# Altium schematic symbol library Connector.SchLib: 400 symbols (part 2 of 5)
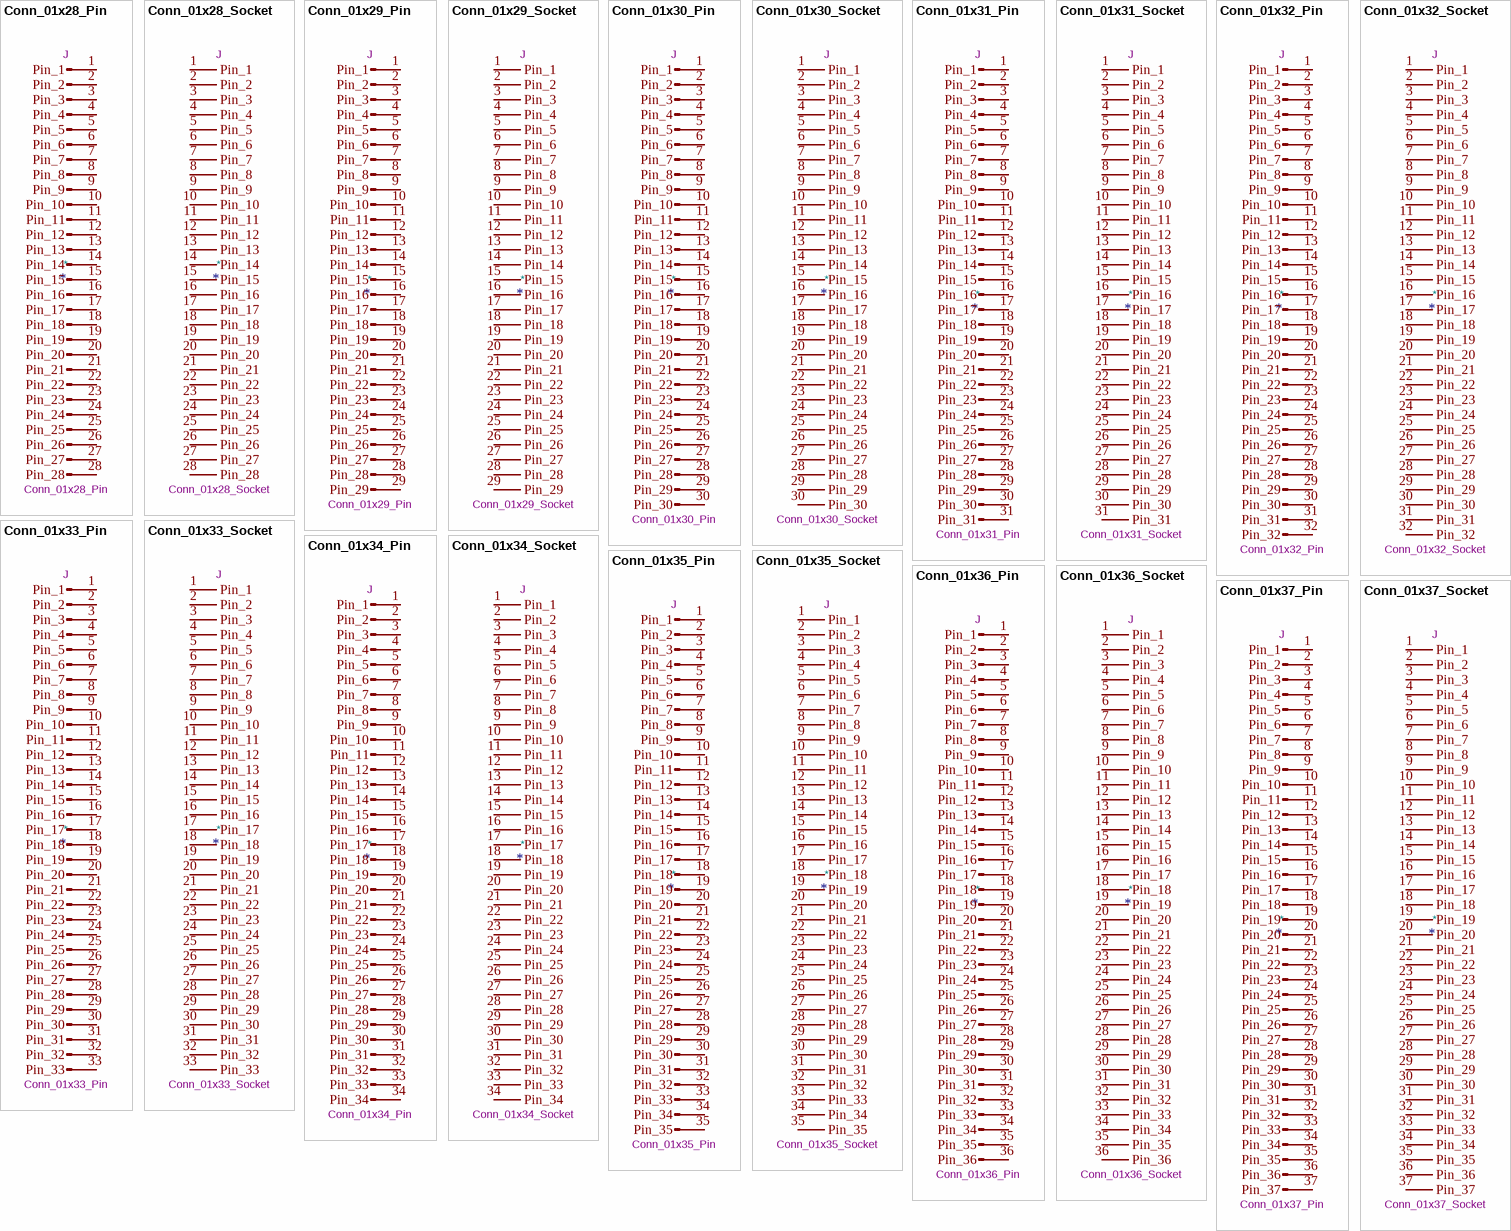
[diagram p18: symbols Conn_01x28_Pin to Conn_01x37_Socket]

## Conn_01x28_Socket
designator *  value Conn_01x28_Socket  Reference: J
Generic connector, single row, 01x28, script generated; ki_fp_filters: Connector*:*_1x??_*; Datasheet: ~; Description_: Generic connector, single row, 01x28, script generated; ki_keywords: connector
pins: 1 Pin_1, 2 Pin_2, 3 Pin_3, 4 Pin_4, 5 Pin_5, 6 Pin_6, 7 Pin_7, 8 Pin_8, 9 Pin_9, 10 Pin_10, 11 Pin_11, 12 Pin_12, 13 Pin_13, 14 Pin_14, 15 Pin_15, 16 Pin_16, 17 Pin_17, 18 Pin_18, 19 Pin_19, 20 Pin_20, 21 Pin_21, 22 Pin_22, 23 Pin_23, 24 Pin_24, 25 Pin_25, 26 Pin_26, 27 Pin_27, 28 Pin_28

## Conn_01x29_Pin
designator *  value Conn_01x29_Pin  Reference: J
Generic connector, single row, 01x29, script generated; ki_fp_filters: Connector*:*_1x??_*; Datasheet: ~; Description_: Generic connector, single row, 01x29, script generated; ki_keywords: connector
pins: 1 Pin_1, 2 Pin_2, 3 Pin_3, 4 Pin_4, 5 Pin_5, 6 Pin_6, 7 Pin_7, 8 Pin_8, 9 Pin_9, 10 Pin_10, 11 Pin_11, 12 Pin_12, 13 Pin_13, 14 Pin_14, 15 Pin_15, 16 Pin_16, 17 Pin_17, 18 Pin_18, 19 Pin_19, 20 Pin_20, 21 Pin_21, 22 Pin_22, 23 Pin_23, 24 Pin_24, 25 Pin_25, 26 Pin_26, 27 Pin_27, 28 Pin_28, 29 Pin_29

## Conn_01x29_Socket
designator *  value Conn_01x29_Socket  Reference: J
Generic connector, single row, 01x29, script generated; ki_fp_filters: Connector*:*_1x??_*; Datasheet: ~; Description_: Generic connector, single row, 01x29, script generated; ki_keywords: connector
pins: 1 Pin_1, 2 Pin_2, 3 Pin_3, 4 Pin_4, 5 Pin_5, 6 Pin_6, 7 Pin_7, 8 Pin_8, 9 Pin_9, 10 Pin_10, 11 Pin_11, 12 Pin_12, 13 Pin_13, 14 Pin_14, 15 Pin_15, 16 Pin_16, 17 Pin_17, 18 Pin_18, 19 Pin_19, 20 Pin_20, 21 Pin_21, 22 Pin_22, 23 Pin_23, 24 Pin_24, 25 Pin_25, 26 Pin_26, 27 Pin_27, 28 Pin_28, 29 Pin_29

## Conn_01x30_Pin
designator *  value Conn_01x30_Pin  Reference: J
Generic connector, single row, 01x30, script generated; ki_fp_filters: Connector*:*_1x??_*; Datasheet: ~; Description_: Generic connector, single row, 01x30, script generated; ki_keywords: connector
pins: 1 Pin_1, 2 Pin_2, 3 Pin_3, 4 Pin_4, 5 Pin_5, 6 Pin_6, 7 Pin_7, 8 Pin_8, 9 Pin_9, 10 Pin_10, 11 Pin_11, 12 Pin_12, 13 Pin_13, 14 Pin_14, 15 Pin_15, 16 Pin_16, 17 Pin_17, 18 Pin_18, 19 Pin_19, 20 Pin_20, 21 Pin_21, 22 Pin_22, 23 Pin_23, 24 Pin_24, 25 Pin_25, 26 Pin_26, 27 Pin_27, 28 Pin_28, 29 Pin_29, 30 Pin_30

## Conn_01x30_Socket
designator *  value Conn_01x30_Socket  Reference: J
Generic connector, single row, 01x30, script generated; ki_fp_filters: Connector*:*_1x??_*; Datasheet: ~; Description_: Generic connector, single row, 01x30, script generated; ki_keywords: connector
pins: 1 Pin_1, 2 Pin_2, 3 Pin_3, 4 Pin_4, 5 Pin_5, 6 Pin_6, 7 Pin_7, 8 Pin_8, 9 Pin_9, 10 Pin_10, 11 Pin_11, 12 Pin_12, 13 Pin_13, 14 Pin_14, 15 Pin_15, 16 Pin_16, 17 Pin_17, 18 Pin_18, 19 Pin_19, 20 Pin_20, 21 Pin_21, 22 Pin_22, 23 Pin_23, 24 Pin_24, 25 Pin_25, 26 Pin_26, 27 Pin_27, 28 Pin_28, 29 Pin_29, 30 Pin_30

## Conn_01x31_Pin
designator *  value Conn_01x31_Pin  Reference: J
Generic connector, single row, 01x31, script generated; ki_fp_filters: Connector*:*_1x??_*; Datasheet: ~; Description_: Generic connector, single row, 01x31, script generated; ki_keywords: connector
pins: 1 Pin_1, 2 Pin_2, 3 Pin_3, 4 Pin_4, 5 Pin_5, 6 Pin_6, 7 Pin_7, 8 Pin_8, 9 Pin_9, 10 Pin_10, 11 Pin_11, 12 Pin_12, 13 Pin_13, 14 Pin_14, 15 Pin_15, 16 Pin_16, 17 Pin_17, 18 Pin_18, 19 Pin_19, 20 Pin_20, 21 Pin_21, 22 Pin_22, 23 Pin_23, 24 Pin_24, 25 Pin_25, 26 Pin_26, 27 Pin_27, 28 Pin_28, 29 Pin_29, 30 Pin_30, 31 Pin_31

## Conn_01x31_Socket
designator *  value Conn_01x31_Socket  Reference: J
Generic connector, single row, 01x31, script generated; ki_fp_filters: Connector*:*_1x??_*; Datasheet: ~; Description_: Generic connector, single row, 01x31, script generated; ki_keywords: connector
pins: 1 Pin_1, 2 Pin_2, 3 Pin_3, 4 Pin_4, 5 Pin_5, 6 Pin_6, 7 Pin_7, 8 Pin_8, 9 Pin_9, 10 Pin_10, 11 Pin_11, 12 Pin_12, 13 Pin_13, 14 Pin_14, 15 Pin_15, 16 Pin_16, 17 Pin_17, 18 Pin_18, 19 Pin_19, 20 Pin_20, 21 Pin_21, 22 Pin_22, 23 Pin_23, 24 Pin_24, 25 Pin_25, 26 Pin_26, 27 Pin_27, 28 Pin_28, 29 Pin_29, 30 Pin_30, 31 Pin_31

## Conn_01x32_Pin
designator *  value Conn_01x32_Pin  Reference: J
Generic connector, single row, 01x32, script generated; ki_fp_filters: Connector*:*_1x??_*; Datasheet: ~; Description_: Generic connector, single row, 01x32, script generated; ki_keywords: connector
pins: 1 Pin_1, 2 Pin_2, 3 Pin_3, 4 Pin_4, 5 Pin_5, 6 Pin_6, 7 Pin_7, 8 Pin_8, 9 Pin_9, 10 Pin_10, 11 Pin_11, 12 Pin_12, 13 Pin_13, 14 Pin_14, 15 Pin_15, 16 Pin_16, 17 Pin_17, 18 Pin_18, 19 Pin_19, 20 Pin_20, 21 Pin_21, 22 Pin_22, 23 Pin_23, 24 Pin_24, 25 Pin_25, 26 Pin_26, 27 Pin_27, 28 Pin_28, 29 Pin_29, 30 Pin_30, 31 Pin_31, 32 Pin_32

## Conn_01x32_Socket
designator *  value Conn_01x32_Socket  Reference: J
Generic connector, single row, 01x32, script generated; ki_fp_filters: Connector*:*_1x??_*; Datasheet: ~; Description_: Generic connector, single row, 01x32, script generated; ki_keywords: connector
pins: 1 Pin_1, 2 Pin_2, 3 Pin_3, 4 Pin_4, 5 Pin_5, 6 Pin_6, 7 Pin_7, 8 Pin_8, 9 Pin_9, 10 Pin_10, 11 Pin_11, 12 Pin_12, 13 Pin_13, 14 Pin_14, 15 Pin_15, 16 Pin_16, 17 Pin_17, 18 Pin_18, 19 Pin_19, 20 Pin_20, 21 Pin_21, 22 Pin_22, 23 Pin_23, 24 Pin_24, 25 Pin_25, 26 Pin_26, 27 Pin_27, 28 Pin_28, 29 Pin_29, 30 Pin_30, 31 Pin_31, 32 Pin_32

## Conn_01x33_Pin
designator *  value Conn_01x33_Pin  Reference: J
Generic connector, single row, 01x33, script generated; ki_fp_filters: Connector*:*_1x??_*; Datasheet: ~; Description_: Generic connector, single row, 01x33, script generated; ki_keywords: connector
pins: 1 Pin_1, 2 Pin_2, 3 Pin_3, 4 Pin_4, 5 Pin_5, 6 Pin_6, 7 Pin_7, 8 Pin_8, 9 Pin_9, 10 Pin_10, 11 Pin_11, 12 Pin_12, 13 Pin_13, 14 Pin_14, 15 Pin_15, 16 Pin_16, 17 Pin_17, 18 Pin_18, 19 Pin_19, 20 Pin_20, 21 Pin_21, 22 Pin_22, 23 Pin_23, 24 Pin_24, 25 Pin_25, 26 Pin_26, 27 Pin_27, 28 Pin_28, 29 Pin_29, 30 Pin_30, 31 Pin_31, 32 Pin_32, 33 Pin_33

## Conn_01x33_Socket
designator *  value Conn_01x33_Socket  Reference: J
Generic connector, single row, 01x33, script generated; ki_fp_filters: Connector*:*_1x??_*; Datasheet: ~; Description_: Generic connector, single row, 01x33, script generated; ki_keywords: connector
pins: 1 Pin_1, 2 Pin_2, 3 Pin_3, 4 Pin_4, 5 Pin_5, 6 Pin_6, 7 Pin_7, 8 Pin_8, 9 Pin_9, 10 Pin_10, 11 Pin_11, 12 Pin_12, 13 Pin_13, 14 Pin_14, 15 Pin_15, 16 Pin_16, 17 Pin_17, 18 Pin_18, 19 Pin_19, 20 Pin_20, 21 Pin_21, 22 Pin_22, 23 Pin_23, 24 Pin_24, 25 Pin_25, 26 Pin_26, 27 Pin_27, 28 Pin_28, 29 Pin_29, 30 Pin_30, 31 Pin_31, 32 Pin_32, 33 Pin_33

## Conn_01x34_Pin
designator *  value Conn_01x34_Pin  Reference: J
Generic connector, single row, 01x34, script generated; ki_fp_filters: Connector*:*_1x??_*; Datasheet: ~; Description_: Generic connector, single row, 01x34, script generated; ki_keywords: connector
pins: 1 Pin_1, 2 Pin_2, 3 Pin_3, 4 Pin_4, 5 Pin_5, 6 Pin_6, 7 Pin_7, 8 Pin_8, 9 Pin_9, 10 Pin_10, 11 Pin_11, 12 Pin_12, 13 Pin_13, 14 Pin_14, 15 Pin_15, 16 Pin_16, 17 Pin_17, 18 Pin_18, 19 Pin_19, 20 Pin_20, 21 Pin_21, 22 Pin_22, 23 Pin_23, 24 Pin_24, 25 Pin_25, 26 Pin_26, 27 Pin_27, 28 Pin_28, 29 Pin_29, 30 Pin_30, 31 Pin_31, 32 Pin_32, 33 Pin_33, 34 Pin_34

## Conn_01x34_Socket
designator *  value Conn_01x34_Socket  Reference: J
Generic connector, single row, 01x34, script generated; ki_fp_filters: Connector*:*_1x??_*; Datasheet: ~; Description_: Generic connector, single row, 01x34, script generated; ki_keywords: connector
pins: 1 Pin_1, 2 Pin_2, 3 Pin_3, 4 Pin_4, 5 Pin_5, 6 Pin_6, 7 Pin_7, 8 Pin_8, 9 Pin_9, 10 Pin_10, 11 Pin_11, 12 Pin_12, 13 Pin_13, 14 Pin_14, 15 Pin_15, 16 Pin_16, 17 Pin_17, 18 Pin_18, 19 Pin_19, 20 Pin_20, 21 Pin_21, 22 Pin_22, 23 Pin_23, 24 Pin_24, 25 Pin_25, 26 Pin_26, 27 Pin_27, 28 Pin_28, 29 Pin_29, 30 Pin_30, 31 Pin_31, 32 Pin_32, 33 Pin_33, 34 Pin_34

## Conn_01x35_Pin
designator *  value Conn_01x35_Pin  Reference: J
Generic connector, single row, 01x35, script generated; ki_fp_filters: Connector*:*_1x??_*; Datasheet: ~; Description_: Generic connector, single row, 01x35, script generated; ki_keywords: connector
pins: 1 Pin_1, 2 Pin_2, 3 Pin_3, 4 Pin_4, 5 Pin_5, 6 Pin_6, 7 Pin_7, 8 Pin_8, 9 Pin_9, 10 Pin_10, 11 Pin_11, 12 Pin_12, 13 Pin_13, 14 Pin_14, 15 Pin_15, 16 Pin_16, 17 Pin_17, 18 Pin_18, 19 Pin_19, 20 Pin_20, 21 Pin_21, 22 Pin_22, 23 Pin_23, 24 Pin_24, 25 Pin_25, 26 Pin_26, 27 Pin_27, 28 Pin_28, 29 Pin_29, 30 Pin_30, 31 Pin_31, 32 Pin_32, 33 Pin_33, 34 Pin_34, 35 Pin_35

## Conn_01x35_Socket
designator *  value Conn_01x35_Socket  Reference: J
Generic connector, single row, 01x35, script generated; ki_fp_filters: Connector*:*_1x??_*; Datasheet: ~; Description_: Generic connector, single row, 01x35, script generated; ki_keywords: connector
pins: 1 Pin_1, 2 Pin_2, 3 Pin_3, 4 Pin_4, 5 Pin_5, 6 Pin_6, 7 Pin_7, 8 Pin_8, 9 Pin_9, 10 Pin_10, 11 Pin_11, 12 Pin_12, 13 Pin_13, 14 Pin_14, 15 Pin_15, 16 Pin_16, 17 Pin_17, 18 Pin_18, 19 Pin_19, 20 Pin_20, 21 Pin_21, 22 Pin_22, 23 Pin_23, 24 Pin_24, 25 Pin_25, 26 Pin_26, 27 Pin_27, 28 Pin_28, 29 Pin_29, 30 Pin_30, 31 Pin_31, 32 Pin_32, 33 Pin_33, 34 Pin_34, 35 Pin_35

## Conn_01x36_Pin
designator *  value Conn_01x36_Pin  Reference: J
Generic connector, single row, 01x36, script generated; ki_fp_filters: Connector*:*_1x??_*; Datasheet: ~; Description_: Generic connector, single row, 01x36, script generated; ki_keywords: connector
pins: 1 Pin_1, 2 Pin_2, 3 Pin_3, 4 Pin_4, 5 Pin_5, 6 Pin_6, 7 Pin_7, 8 Pin_8, 9 Pin_9, 10 Pin_10, 11 Pin_11, 12 Pin_12, 13 Pin_13, 14 Pin_14, 15 Pin_15, 16 Pin_16, 17 Pin_17, 18 Pin_18, 19 Pin_19, 20 Pin_20, 21 Pin_21, 22 Pin_22, 23 Pin_23, 24 Pin_24, 25 Pin_25, 26 Pin_26, 27 Pin_27, 28 Pin_28, 29 Pin_29, 30 Pin_30, 31 Pin_31, 32 Pin_32, 33 Pin_33, 34 Pin_34, 35 Pin_35, 36 Pin_36

## Conn_01x36_Socket
designator *  value Conn_01x36_Socket  Reference: J
Generic connector, single row, 01x36, script generated; ki_fp_filters: Connector*:*_1x??_*; Datasheet: ~; Description_: Generic connector, single row, 01x36, script generated; ki_keywords: connector
pins: 1 Pin_1, 2 Pin_2, 3 Pin_3, 4 Pin_4, 5 Pin_5, 6 Pin_6, 7 Pin_7, 8 Pin_8, 9 Pin_9, 10 Pin_10, 11 Pin_11, 12 Pin_12, 13 Pin_13, 14 Pin_14, 15 Pin_15, 16 Pin_16, 17 Pin_17, 18 Pin_18, 19 Pin_19, 20 Pin_20, 21 Pin_21, 22 Pin_22, 23 Pin_23, 24 Pin_24, 25 Pin_25, 26 Pin_26, 27 Pin_27, 28 Pin_28, 29 Pin_29, 30 Pin_30, 31 Pin_31, 32 Pin_32, 33 Pin_33, 34 Pin_34, 35 Pin_35, 36 Pin_36

## Conn_01x37_Pin
designator *  value Conn_01x37_Pin  Reference: J
Generic connector, single row, 01x37, script generated; ki_fp_filters: Connector*:*_1x??_*; Datasheet: ~; Description_: Generic connector, single row, 01x37, script generated; ki_keywords: connector
pins: 1 Pin_1, 2 Pin_2, 3 Pin_3, 4 Pin_4, 5 Pin_5, 6 Pin_6, 7 Pin_7, 8 Pin_8, 9 Pin_9, 10 Pin_10, 11 Pin_11, 12 Pin_12, 13 Pin_13, 14 Pin_14, 15 Pin_15, 16 Pin_16, 17 Pin_17, 18 Pin_18, 19 Pin_19, 20 Pin_20, 21 Pin_21, 22 Pin_22, 23 Pin_23, 24 Pin_24, 25 Pin_25, 26 Pin_26, 27 Pin_27, 28 Pin_28, 29 Pin_29, 30 Pin_30, 31 Pin_31, 32 Pin_32, 33 Pin_33, 34 Pin_34, 35 Pin_35, 36 Pin_36, 37 Pin_37

## Conn_01x37_Socket
designator *  value Conn_01x37_Socket  Reference: J
Generic connector, single row, 01x37, script generated; ki_fp_filters: Connector*:*_1x??_*; Datasheet: ~; Description_: Generic connector, single row, 01x37, script generated; ki_keywords: connector
pins: 1 Pin_1, 2 Pin_2, 3 Pin_3, 4 Pin_4, 5 Pin_5, 6 Pin_6, 7 Pin_7, 8 Pin_8, 9 Pin_9, 10 Pin_10, 11 Pin_11, 12 Pin_12, 13 Pin_13, 14 Pin_14, 15 Pin_15, 16 Pin_16, 17 Pin_17, 18 Pin_18, 19 Pin_19, 20 Pin_20, 21 Pin_21, 22 Pin_22, 23 Pin_23, 24 Pin_24, 25 Pin_25, 26 Pin_26, 27 Pin_27, 28 Pin_28, 29 Pin_29, 30 Pin_30, 31 Pin_31, 32 Pin_32, 33 Pin_33, 34 Pin_34, 35 Pin_35, 36 Pin_36, 37 Pin_37

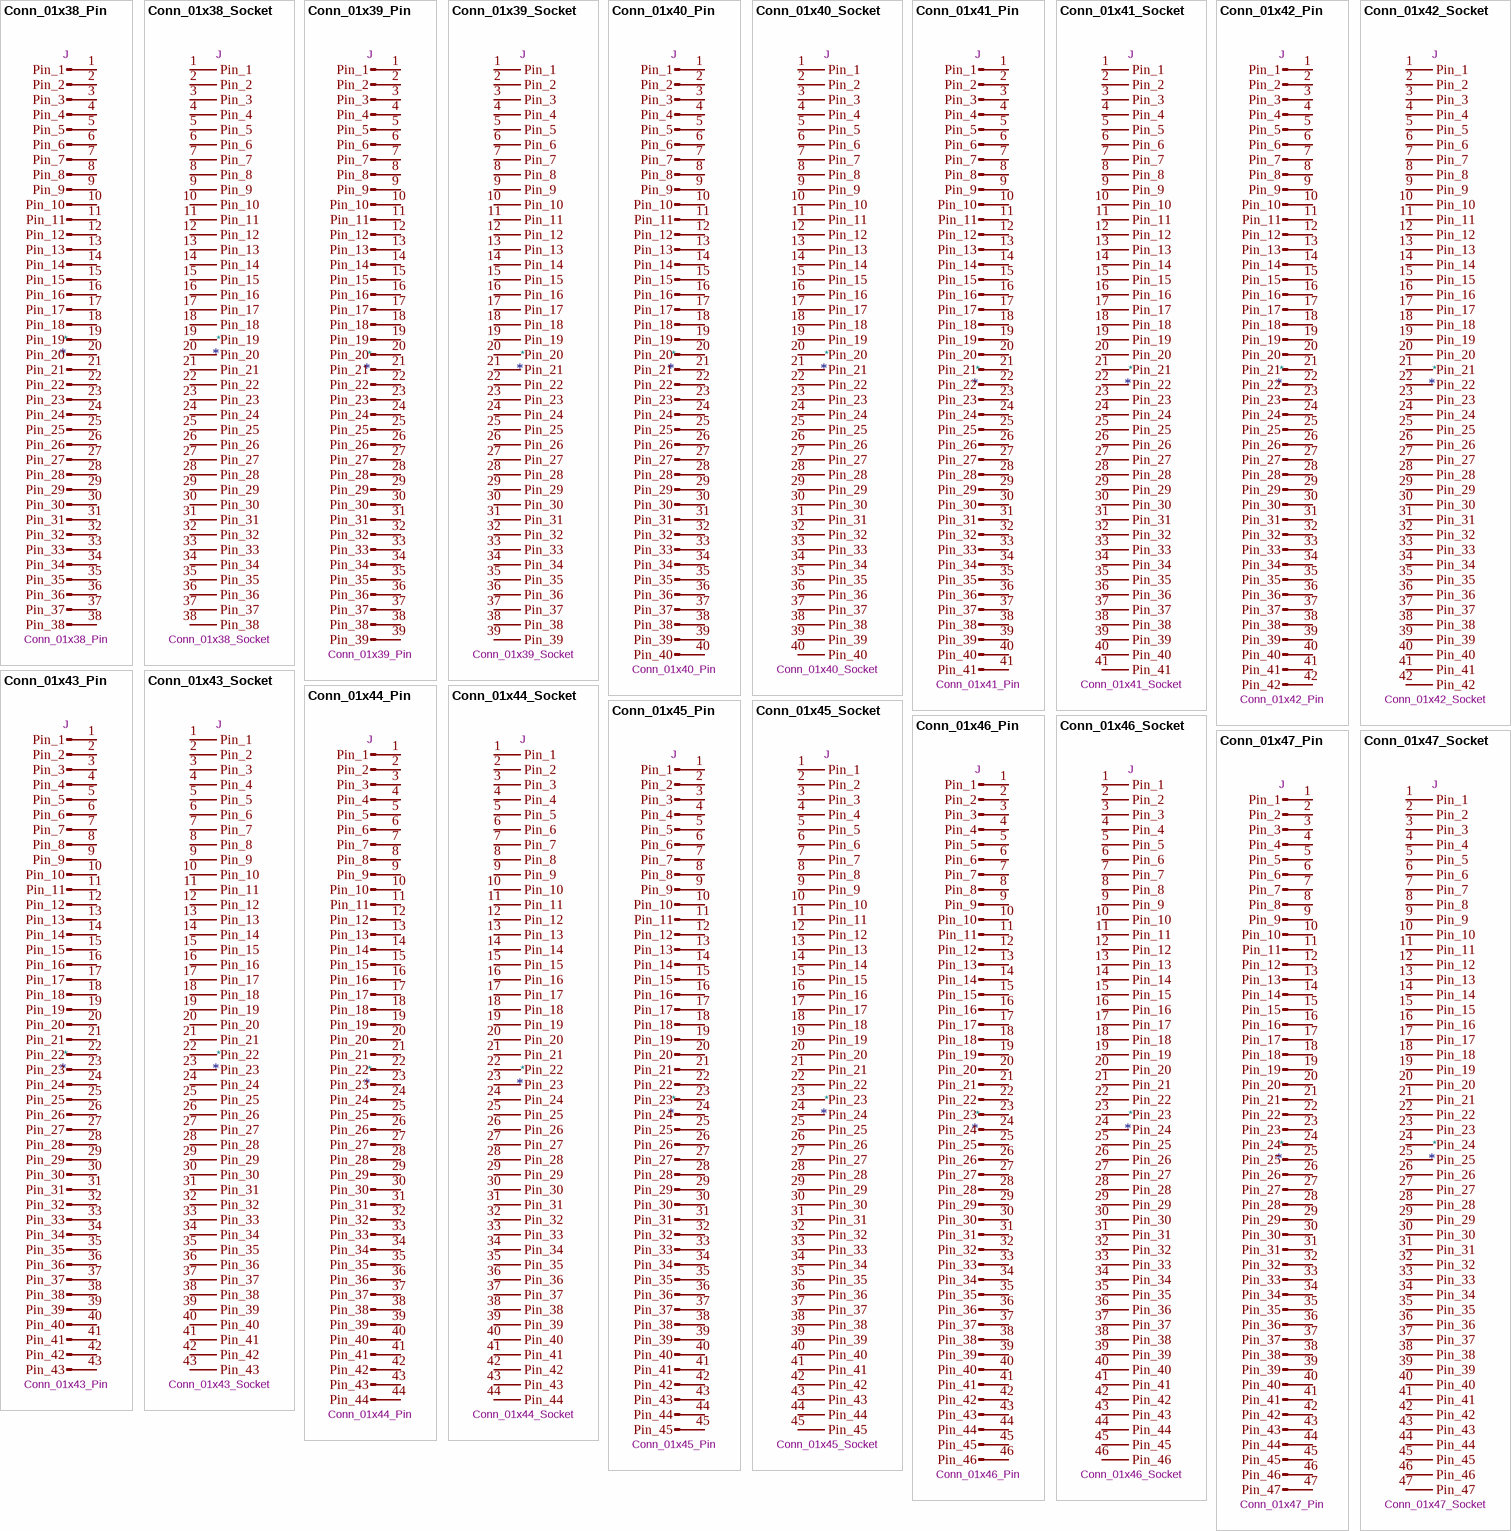
[diagram p5: symbols Conn_01x38_Pin to Conn_01x47_Socket]

## Conn_01x38_Pin
designator *  value Conn_01x38_Pin  Reference: J
Generic connector, single row, 01x38, script generated; ki_fp_filters: Connector*:*_1x??_*; Datasheet: ~; Description_: Generic connector, single row, 01x38, script generated; ki_keywords: connector
pins: 1 Pin_1, 2 Pin_2, 3 Pin_3, 4 Pin_4, 5 Pin_5, 6 Pin_6, 7 Pin_7, 8 Pin_8, 9 Pin_9, 10 Pin_10, 11 Pin_11, 12 Pin_12, 13 Pin_13, 14 Pin_14, 15 Pin_15, 16 Pin_16, 17 Pin_17, 18 Pin_18, 19 Pin_19, 20 Pin_20, 21 Pin_21, 22 Pin_22, 23 Pin_23, 24 Pin_24, 25 Pin_25, 26 Pin_26, 27 Pin_27, 28 Pin_28, 29 Pin_29, 30 Pin_30, 31 Pin_31, 32 Pin_32, 33 Pin_33, 34 Pin_34, 35 Pin_35, 36 Pin_36, 37 Pin_37, 38 Pin_38

## Conn_01x38_Socket
designator *  value Conn_01x38_Socket  Reference: J
Generic connector, single row, 01x38, script generated; ki_fp_filters: Connector*:*_1x??_*; Datasheet: ~; Description_: Generic connector, single row, 01x38, script generated; ki_keywords: connector
pins: 1 Pin_1, 2 Pin_2, 3 Pin_3, 4 Pin_4, 5 Pin_5, 6 Pin_6, 7 Pin_7, 8 Pin_8, 9 Pin_9, 10 Pin_10, 11 Pin_11, 12 Pin_12, 13 Pin_13, 14 Pin_14, 15 Pin_15, 16 Pin_16, 17 Pin_17, 18 Pin_18, 19 Pin_19, 20 Pin_20, 21 Pin_21, 22 Pin_22, 23 Pin_23, 24 Pin_24, 25 Pin_25, 26 Pin_26, 27 Pin_27, 28 Pin_28, 29 Pin_29, 30 Pin_30, 31 Pin_31, 32 Pin_32, 33 Pin_33, 34 Pin_34, 35 Pin_35, 36 Pin_36, 37 Pin_37, 38 Pin_38

## Conn_01x39_Pin
designator *  value Conn_01x39_Pin  Reference: J
Generic connector, single row, 01x39, script generated; ki_fp_filters: Connector*:*_1x??_*; Datasheet: ~; Description_: Generic connector, single row, 01x39, script generated; ki_keywords: connector
pins: 1 Pin_1, 2 Pin_2, 3 Pin_3, 4 Pin_4, 5 Pin_5, 6 Pin_6, 7 Pin_7, 8 Pin_8, 9 Pin_9, 10 Pin_10, 11 Pin_11, 12 Pin_12, 13 Pin_13, 14 Pin_14, 15 Pin_15, 16 Pin_16, 17 Pin_17, 18 Pin_18, 19 Pin_19, 20 Pin_20, 21 Pin_21, 22 Pin_22, 23 Pin_23, 24 Pin_24, 25 Pin_25, 26 Pin_26, 27 Pin_27, 28 Pin_28, 29 Pin_29, 30 Pin_30, 31 Pin_31, 32 Pin_32, 33 Pin_33, 34 Pin_34, 35 Pin_35, 36 Pin_36, 37 Pin_37, 38 Pin_38, 39 Pin_39

## Conn_01x39_Socket
designator *  value Conn_01x39_Socket  Reference: J
Generic connector, single row, 01x39, script generated; ki_fp_filters: Connector*:*_1x??_*; Datasheet: ~; Description_: Generic connector, single row, 01x39, script generated; ki_keywords: connector
pins: 1 Pin_1, 2 Pin_2, 3 Pin_3, 4 Pin_4, 5 Pin_5, 6 Pin_6, 7 Pin_7, 8 Pin_8, 9 Pin_9, 10 Pin_10, 11 Pin_11, 12 Pin_12, 13 Pin_13, 14 Pin_14, 15 Pin_15, 16 Pin_16, 17 Pin_17, 18 Pin_18, 19 Pin_19, 20 Pin_20, 21 Pin_21, 22 Pin_22, 23 Pin_23, 24 Pin_24, 25 Pin_25, 26 Pin_26, 27 Pin_27, 28 Pin_28, 29 Pin_29, 30 Pin_30, 31 Pin_31, 32 Pin_32, 33 Pin_33, 34 Pin_34, 35 Pin_35, 36 Pin_36, 37 Pin_37, 38 Pin_38, 39 Pin_39

## Conn_01x40_Pin
designator *  value Conn_01x40_Pin  Reference: J
Generic connector, single row, 01x40, script generated; ki_fp_filters: Connector*:*_1x??_*; Datasheet: ~; Description_: Generic connector, single row, 01x40, script generated; ki_keywords: connector
pins: 1 Pin_1, 2 Pin_2, 3 Pin_3, 4 Pin_4, 5 Pin_5, 6 Pin_6, 7 Pin_7, 8 Pin_8, 9 Pin_9, 10 Pin_10, 11 Pin_11, 12 Pin_12, 13 Pin_13, 14 Pin_14, 15 Pin_15, 16 Pin_16, 17 Pin_17, 18 Pin_18, 19 Pin_19, 20 Pin_20, 21 Pin_21, 22 Pin_22, 23 Pin_23, 24 Pin_24, 25 Pin_25, 26 Pin_26, 27 Pin_27, 28 Pin_28, 29 Pin_29, 30 Pin_30, 31 Pin_31, 32 Pin_32, 33 Pin_33, 34 Pin_34, 35 Pin_35, 36 Pin_36, 37 Pin_37, 38 Pin_38, 39 Pin_39, 40 Pin_40

## Conn_01x40_Socket
designator *  value Conn_01x40_Socket  Reference: J
Generic connector, single row, 01x40, script generated; ki_fp_filters: Connector*:*_1x??_*; Datasheet: ~; Description_: Generic connector, single row, 01x40, script generated; ki_keywords: connector
pins: 1 Pin_1, 2 Pin_2, 3 Pin_3, 4 Pin_4, 5 Pin_5, 6 Pin_6, 7 Pin_7, 8 Pin_8, 9 Pin_9, 10 Pin_10, 11 Pin_11, 12 Pin_12, 13 Pin_13, 14 Pin_14, 15 Pin_15, 16 Pin_16, 17 Pin_17, 18 Pin_18, 19 Pin_19, 20 Pin_20, 21 Pin_21, 22 Pin_22, 23 Pin_23, 24 Pin_24, 25 Pin_25, 26 Pin_26, 27 Pin_27, 28 Pin_28, 29 Pin_29, 30 Pin_30, 31 Pin_31, 32 Pin_32, 33 Pin_33, 34 Pin_34, 35 Pin_35, 36 Pin_36, 37 Pin_37, 38 Pin_38, 39 Pin_39, 40 Pin_40

## Conn_01x41_Pin
designator *  value Conn_01x41_Pin  Reference: J
"Generic connector, single row, 01x41, script generated"; ki_fp_filters: Connector*:*_1x??_*; Datasheet: ~; Description_: "Generic connector, single row, 01x41, script generated"; ki_keywords: connector
pins: 1 Pin_1, 2 Pin_2, 3 Pin_3, 4 Pin_4, 5 Pin_5, 6 Pin_6, 7 Pin_7, 8 Pin_8, 9 Pin_9, 10 Pin_10, 11 Pin_11, 12 Pin_12, 13 Pin_13, 14 Pin_14, 15 Pin_15, 16 Pin_16, 17 Pin_17, 18 Pin_18, 19 Pin_19, 20 Pin_20, 21 Pin_21, 22 Pin_22, 23 Pin_23, 24 Pin_24, 25 Pin_25, 26 Pin_26, 27 Pin_27, 28 Pin_28, 29 Pin_29, 30 Pin_30, 31 Pin_31, 32 Pin_32, 33 Pin_33, 34 Pin_34, 35 Pin_35, 36 Pin_36, 37 Pin_37, 38 Pin_38, 39 Pin_39, 40 Pin_40, 41 Pin_41

## Conn_01x41_Socket
designator *  value Conn_01x41_Socket  Reference: J
"Generic connector, single row, 01x41, script generated"; ki_fp_filters: Connector*:*_1x??_*; Datasheet: ~; Description_: "Generic connector, single row, 01x41, script generated"; ki_keywords: connector
pins: 1 Pin_1, 2 Pin_2, 3 Pin_3, 4 Pin_4, 5 Pin_5, 6 Pin_6, 7 Pin_7, 8 Pin_8, 9 Pin_9, 10 Pin_10, 11 Pin_11, 12 Pin_12, 13 Pin_13, 14 Pin_14, 15 Pin_15, 16 Pin_16, 17 Pin_17, 18 Pin_18, 19 Pin_19, 20 Pin_20, 21 Pin_21, 22 Pin_22, 23 Pin_23, 24 Pin_24, 25 Pin_25, 26 Pin_26, 27 Pin_27, 28 Pin_28, 29 Pin_29, 30 Pin_30, 31 Pin_31, 32 Pin_32, 33 Pin_33, 34 Pin_34, 35 Pin_35, 36 Pin_36, 37 Pin_37, 38 Pin_38, 39 Pin_39, 40 Pin_40, 41 Pin_41

## Conn_01x42_Pin
designator *  value Conn_01x42_Pin  Reference: J
"Generic connector, single row, 01x42, script generated"; ki_fp_filters: Connector*:*_1x??_*; Datasheet: ~; Description_: "Generic connector, single row, 01x42, script generated"; ki_keywords: connector
pins: 1 Pin_1, 2 Pin_2, 3 Pin_3, 4 Pin_4, 5 Pin_5, 6 Pin_6, 7 Pin_7, 8 Pin_8, 9 Pin_9, 10 Pin_10, 11 Pin_11, 12 Pin_12, 13 Pin_13, 14 Pin_14, 15 Pin_15, 16 Pin_16, 17 Pin_17, 18 Pin_18, 19 Pin_19, 20 Pin_20, 21 Pin_21, 22 Pin_22, 23 Pin_23, 24 Pin_24, 25 Pin_25, 26 Pin_26, 27 Pin_27, 28 Pin_28, 29 Pin_29, 30 Pin_30, 31 Pin_31, 32 Pin_32, 33 Pin_33, 34 Pin_34, 35 Pin_35, 36 Pin_36, 37 Pin_37, 38 Pin_38, 39 Pin_39, 40 Pin_40, 41 Pin_41, 42 Pin_42

## Conn_01x42_Socket
designator *  value Conn_01x42_Socket  Reference: J
"Generic connector, single row, 01x42, script generated"; ki_fp_filters: Connector*:*_1x??_*; Datasheet: ~; Description_: "Generic connector, single row, 01x42, script generated"; ki_keywords: connector
pins: 1 Pin_1, 2 Pin_2, 3 Pin_3, 4 Pin_4, 5 Pin_5, 6 Pin_6, 7 Pin_7, 8 Pin_8, 9 Pin_9, 10 Pin_10, 11 Pin_11, 12 Pin_12, 13 Pin_13, 14 Pin_14, 15 Pin_15, 16 Pin_16, 17 Pin_17, 18 Pin_18, 19 Pin_19, 20 Pin_20, 21 Pin_21, 22 Pin_22, 23 Pin_23, 24 Pin_24, 25 Pin_25, 26 Pin_26, 27 Pin_27, 28 Pin_28, 29 Pin_29, 30 Pin_30, 31 Pin_31, 32 Pin_32, 33 Pin_33, 34 Pin_34, 35 Pin_35, 36 Pin_36, 37 Pin_37, 38 Pin_38, 39 Pin_39, 40 Pin_40, 41 Pin_41, 42 Pin_42

## Conn_01x43_Pin
designator *  value Conn_01x43_Pin  Reference: J
"Generic connector, single row, 01x43, script generated"; ki_fp_filters: Connector*:*_1x??_*; Datasheet: ~; Description_: "Generic connector, single row, 01x43, script generated"; ki_keywords: connector
pins: 1 Pin_1, 2 Pin_2, 3 Pin_3, 4 Pin_4, 5 Pin_5, 6 Pin_6, 7 Pin_7, 8 Pin_8, 9 Pin_9, 10 Pin_10, 11 Pin_11, 12 Pin_12, 13 Pin_13, 14 Pin_14, 15 Pin_15, 16 Pin_16, 17 Pin_17, 18 Pin_18, 19 Pin_19, 20 Pin_20, 21 Pin_21, 22 Pin_22, 23 Pin_23, 24 Pin_24, 25 Pin_25, 26 Pin_26, 27 Pin_27, 28 Pin_28, 29 Pin_29, 30 Pin_30, 31 Pin_31, 32 Pin_32, 33 Pin_33, 34 Pin_34, 35 Pin_35, 36 Pin_36, 37 Pin_37, 38 Pin_38, 39 Pin_39, 40 Pin_40, 41 Pin_41, 42 Pin_42, 43 Pin_43

## Conn_01x43_Socket
designator *  value Conn_01x43_Socket  Reference: J
"Generic connector, single row, 01x43, script generated"; ki_fp_filters: Connector*:*_1x??_*; Datasheet: ~; Description_: "Generic connector, single row, 01x43, script generated"; ki_keywords: connector
pins: 1 Pin_1, 2 Pin_2, 3 Pin_3, 4 Pin_4, 5 Pin_5, 6 Pin_6, 7 Pin_7, 8 Pin_8, 9 Pin_9, 10 Pin_10, 11 Pin_11, 12 Pin_12, 13 Pin_13, 14 Pin_14, 15 Pin_15, 16 Pin_16, 17 Pin_17, 18 Pin_18, 19 Pin_19, 20 Pin_20, 21 Pin_21, 22 Pin_22, 23 Pin_23, 24 Pin_24, 25 Pin_25, 26 Pin_26, 27 Pin_27, 28 Pin_28, 29 Pin_29, 30 Pin_30, 31 Pin_31, 32 Pin_32, 33 Pin_33, 34 Pin_34, 35 Pin_35, 36 Pin_36, 37 Pin_37, 38 Pin_38, 39 Pin_39, 40 Pin_40, 41 Pin_41, 42 Pin_42, 43 Pin_43

## Conn_01x44_Pin
designator *  value Conn_01x44_Pin  Reference: J
"Generic connector, single row, 01x44, script generated"; ki_fp_filters: Connector*:*_1x??_*; Datasheet: ~; Description_: "Generic connector, single row, 01x44, script generated"; ki_keywords: connector
pins: 1 Pin_1, 2 Pin_2, 3 Pin_3, 4 Pin_4, 5 Pin_5, 6 Pin_6, 7 Pin_7, 8 Pin_8, 9 Pin_9, 10 Pin_10, 11 Pin_11, 12 Pin_12, 13 Pin_13, 14 Pin_14, 15 Pin_15, 16 Pin_16, 17 Pin_17, 18 Pin_18, 19 Pin_19, 20 Pin_20, 21 Pin_21, 22 Pin_22, 23 Pin_23, 24 Pin_24, 25 Pin_25, 26 Pin_26, 27 Pin_27, 28 Pin_28, 29 Pin_29, 30 Pin_30, 31 Pin_31, 32 Pin_32, 33 Pin_33, 34 Pin_34, 35 Pin_35, 36 Pin_36, 37 Pin_37, 38 Pin_38, 39 Pin_39, 40 Pin_40, 41 Pin_41, 42 Pin_42, 43 Pin_43, 44 Pin_44

## Conn_01x44_Socket
designator *  value Conn_01x44_Socket  Reference: J
"Generic connector, single row, 01x44, script generated"; ki_fp_filters: Connector*:*_1x??_*; Datasheet: ~; Description_: "Generic connector, single row, 01x44, script generated"; ki_keywords: connector
pins: 1 Pin_1, 2 Pin_2, 3 Pin_3, 4 Pin_4, 5 Pin_5, 6 Pin_6, 7 Pin_7, 8 Pin_8, 9 Pin_9, 10 Pin_10, 11 Pin_11, 12 Pin_12, 13 Pin_13, 14 Pin_14, 15 Pin_15, 16 Pin_16, 17 Pin_17, 18 Pin_18, 19 Pin_19, 20 Pin_20, 21 Pin_21, 22 Pin_22, 23 Pin_23, 24 Pin_24, 25 Pin_25, 26 Pin_26, 27 Pin_27, 28 Pin_28, 29 Pin_29, 30 Pin_30, 31 Pin_31, 32 Pin_32, 33 Pin_33, 34 Pin_34, 35 Pin_35, 36 Pin_36, 37 Pin_37, 38 Pin_38, 39 Pin_39, 40 Pin_40, 41 Pin_41, 42 Pin_42, 43 Pin_43, 44 Pin_44

## Conn_01x45_Pin
designator *  value Conn_01x45_Pin  Reference: J
"Generic connector, single row, 01x45, script generated"; ki_fp_filters: Connector*:*_1x??_*; Datasheet: ~; Description_: "Generic connector, single row, 01x45, script generated"; ki_keywords: connector
pins: 1 Pin_1, 2 Pin_2, 3 Pin_3, 4 Pin_4, 5 Pin_5, 6 Pin_6, 7 Pin_7, 8 Pin_8, 9 Pin_9, 10 Pin_10, 11 Pin_11, 12 Pin_12, 13 Pin_13, 14 Pin_14, 15 Pin_15, 16 Pin_16, 17 Pin_17, 18 Pin_18, 19 Pin_19, 20 Pin_20, 21 Pin_21, 22 Pin_22, 23 Pin_23, 24 Pin_24, 25 Pin_25, 26 Pin_26, 27 Pin_27, 28 Pin_28, 29 Pin_29, 30 Pin_30, 31 Pin_31, 32 Pin_32, 33 Pin_33, 34 Pin_34, 35 Pin_35, 36 Pin_36, 37 Pin_37, 38 Pin_38, 39 Pin_39, 40 Pin_40, 41 Pin_41, 42 Pin_42, 43 Pin_43, 44 Pin_44, 45 Pin_45

## Conn_01x45_Socket
designator *  value Conn_01x45_Socket  Reference: J
"Generic connector, single row, 01x45, script generated"; ki_fp_filters: Connector*:*_1x??_*; Datasheet: ~; Description_: "Generic connector, single row, 01x45, script generated"; ki_keywords: connector
pins: 1 Pin_1, 2 Pin_2, 3 Pin_3, 4 Pin_4, 5 Pin_5, 6 Pin_6, 7 Pin_7, 8 Pin_8, 9 Pin_9, 10 Pin_10, 11 Pin_11, 12 Pin_12, 13 Pin_13, 14 Pin_14, 15 Pin_15, 16 Pin_16, 17 Pin_17, 18 Pin_18, 19 Pin_19, 20 Pin_20, 21 Pin_21, 22 Pin_22, 23 Pin_23, 24 Pin_24, 25 Pin_25, 26 Pin_26, 27 Pin_27, 28 Pin_28, 29 Pin_29, 30 Pin_30, 31 Pin_31, 32 Pin_32, 33 Pin_33, 34 Pin_34, 35 Pin_35, 36 Pin_36, 37 Pin_37, 38 Pin_38, 39 Pin_39, 40 Pin_40, 41 Pin_41, 42 Pin_42, 43 Pin_43, 44 Pin_44, 45 Pin_45

## Conn_01x46_Pin
designator *  value Conn_01x46_Pin  Reference: J
"Generic connector, single row, 01x46, script generated"; ki_fp_filters: Connector*:*_1x??_*; Datasheet: ~; Description_: "Generic connector, single row, 01x46, script generated"; ki_keywords: connector
pins: 1 Pin_1, 2 Pin_2, 3 Pin_3, 4 Pin_4, 5 Pin_5, 6 Pin_6, 7 Pin_7, 8 Pin_8, 9 Pin_9, 10 Pin_10, 11 Pin_11, 12 Pin_12, 13 Pin_13, 14 Pin_14, 15 Pin_15, 16 Pin_16, 17 Pin_17, 18 Pin_18, 19 Pin_19, 20 Pin_20, 21 Pin_21, 22 Pin_22, 23 Pin_23, 24 Pin_24, 25 Pin_25, 26 Pin_26, 27 Pin_27, 28 Pin_28, 29 Pin_29, 30 Pin_30, 31 Pin_31, 32 Pin_32, 33 Pin_33, 34 Pin_34, 35 Pin_35, 36 Pin_36, 37 Pin_37, 38 Pin_38, 39 Pin_39, 40 Pin_40, 41 Pin_41, 42 Pin_42, 43 Pin_43, 44 Pin_44, 45 Pin_45, 46 Pin_46

## Conn_01x46_Socket
designator *  value Conn_01x46_Socket  Reference: J
"Generic connector, single row, 01x46, script generated"; ki_fp_filters: Connector*:*_1x??_*; Datasheet: ~; Description_: "Generic connector, single row, 01x46, script generated"; ki_keywords: connector
pins: 1 Pin_1, 2 Pin_2, 3 Pin_3, 4 Pin_4, 5 Pin_5, 6 Pin_6, 7 Pin_7, 8 Pin_8, 9 Pin_9, 10 Pin_10, 11 Pin_11, 12 Pin_12, 13 Pin_13, 14 Pin_14, 15 Pin_15, 16 Pin_16, 17 Pin_17, 18 Pin_18, 19 Pin_19, 20 Pin_20, 21 Pin_21, 22 Pin_22, 23 Pin_23, 24 Pin_24, 25 Pin_25, 26 Pin_26, 27 Pin_27, 28 Pin_28, 29 Pin_29, 30 Pin_30, 31 Pin_31, 32 Pin_32, 33 Pin_33, 34 Pin_34, 35 Pin_35, 36 Pin_36, 37 Pin_37, 38 Pin_38, 39 Pin_39, 40 Pin_40, 41 Pin_41, 42 Pin_42, 43 Pin_43, 44 Pin_44, 45 Pin_45, 46 Pin_46

## Conn_01x47_Pin
designator *  value Conn_01x47_Pin  Reference: J
"Generic connector, single row, 01x47, script generated"; ki_fp_filters: Connector*:*_1x??_*; Datasheet: ~; Description_: "Generic connector, single row, 01x47, script generated"; ki_keywords: connector
pins: 1 Pin_1, 2 Pin_2, 3 Pin_3, 4 Pin_4, 5 Pin_5, 6 Pin_6, 7 Pin_7, 8 Pin_8, 9 Pin_9, 10 Pin_10, 11 Pin_11, 12 Pin_12, 13 Pin_13, 14 Pin_14, 15 Pin_15, 16 Pin_16, 17 Pin_17, 18 Pin_18, 19 Pin_19, 20 Pin_20, 21 Pin_21, 22 Pin_22, 23 Pin_23, 24 Pin_24, 25 Pin_25, 26 Pin_26, 27 Pin_27, 28 Pin_28, 29 Pin_29, 30 Pin_30, 31 Pin_31, 32 Pin_32, 33 Pin_33, 34 Pin_34, 35 Pin_35, 36 Pin_36, 37 Pin_37, 38 Pin_38, 39 Pin_39, 40 Pin_40, 41 Pin_41, 42 Pin_42, 43 Pin_43, 44 Pin_44, 45 Pin_45, 46 Pin_46, 47 Pin_47

## Conn_01x47_Socket
designator *  value Conn_01x47_Socket  Reference: J
"Generic connector, single row, 01x47, script generated"; ki_fp_filters: Connector*:*_1x??_*; Datasheet: ~; Description_: "Generic connector, single row, 01x47, script generated"; ki_keywords: connector
pins: 1 Pin_1, 2 Pin_2, 3 Pin_3, 4 Pin_4, 5 Pin_5, 6 Pin_6, 7 Pin_7, 8 Pin_8, 9 Pin_9, 10 Pin_10, 11 Pin_11, 12 Pin_12, 13 Pin_13, 14 Pin_14, 15 Pin_15, 16 Pin_16, 17 Pin_17, 18 Pin_18, 19 Pin_19, 20 Pin_20, 21 Pin_21, 22 Pin_22, 23 Pin_23, 24 Pin_24, 25 Pin_25, 26 Pin_26, 27 Pin_27, 28 Pin_28, 29 Pin_29, 30 Pin_30, 31 Pin_31, 32 Pin_32, 33 Pin_33, 34 Pin_34, 35 Pin_35, 36 Pin_36, 37 Pin_37, 38 Pin_38, 39 Pin_39, 40 Pin_40, 41 Pin_41, 42 Pin_42, 43 Pin_43, 44 Pin_44, 45 Pin_45, 46 Pin_46, 47 Pin_47

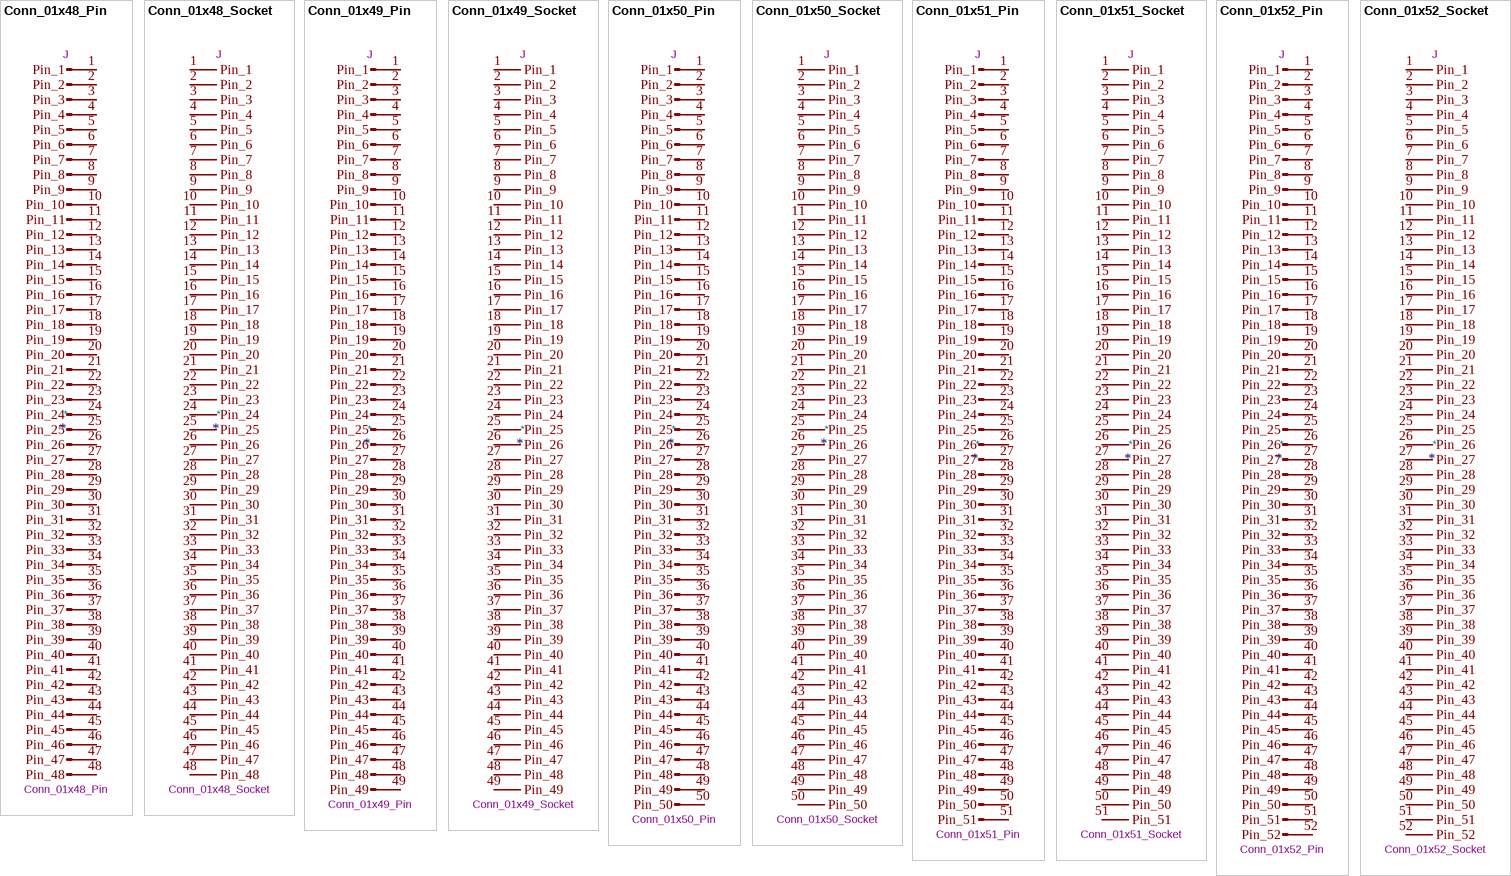
[diagram p6: symbols Conn_01x48_Pin to Conn_01x52_Socket]

## Conn_01x48_Pin
designator *  value Conn_01x48_Pin  Reference: J
"Generic connector, single row, 01x48, script generated"; ki_fp_filters: Connector*:*_1x??_*; Datasheet: ~; Description_: "Generic connector, single row, 01x48, script generated"; ki_keywords: connector
pins: 1 Pin_1, 2 Pin_2, 3 Pin_3, 4 Pin_4, 5 Pin_5, 6 Pin_6, 7 Pin_7, 8 Pin_8, 9 Pin_9, 10 Pin_10, 11 Pin_11, 12 Pin_12, 13 Pin_13, 14 Pin_14, 15 Pin_15, 16 Pin_16, 17 Pin_17, 18 Pin_18, 19 Pin_19, 20 Pin_20, 21 Pin_21, 22 Pin_22, 23 Pin_23, 24 Pin_24, 25 Pin_25, 26 Pin_26, 27 Pin_27, 28 Pin_28, 29 Pin_29, 30 Pin_30, 31 Pin_31, 32 Pin_32, 33 Pin_33, 34 Pin_34, 35 Pin_35, 36 Pin_36, 37 Pin_37, 38 Pin_38, 39 Pin_39, 40 Pin_40, 41 Pin_41, 42 Pin_42, 43 Pin_43, 44 Pin_44, 45 Pin_45, 46 Pin_46, 47 Pin_47, 48 Pin_48

## Conn_01x48_Socket
designator *  value Conn_01x48_Socket  Reference: J
"Generic connector, single row, 01x48, script generated"; ki_fp_filters: Connector*:*_1x??_*; Datasheet: ~; Description_: "Generic connector, single row, 01x48, script generated"; ki_keywords: connector
pins: 1 Pin_1, 2 Pin_2, 3 Pin_3, 4 Pin_4, 5 Pin_5, 6 Pin_6, 7 Pin_7, 8 Pin_8, 9 Pin_9, 10 Pin_10, 11 Pin_11, 12 Pin_12, 13 Pin_13, 14 Pin_14, 15 Pin_15, 16 Pin_16, 17 Pin_17, 18 Pin_18, 19 Pin_19, 20 Pin_20, 21 Pin_21, 22 Pin_22, 23 Pin_23, 24 Pin_24, 25 Pin_25, 26 Pin_26, 27 Pin_27, 28 Pin_28, 29 Pin_29, 30 Pin_30, 31 Pin_31, 32 Pin_32, 33 Pin_33, 34 Pin_34, 35 Pin_35, 36 Pin_36, 37 Pin_37, 38 Pin_38, 39 Pin_39, 40 Pin_40, 41 Pin_41, 42 Pin_42, 43 Pin_43, 44 Pin_44, 45 Pin_45, 46 Pin_46, 47 Pin_47, 48 Pin_48

## Conn_01x49_Pin
designator *  value Conn_01x49_Pin  Reference: J
"Generic connector, single row, 01x49, script generated"; ki_fp_filters: Connector*:*_1x??_*; Datasheet: ~; Description_: "Generic connector, single row, 01x49, script generated"; ki_keywords: connector
pins: 1 Pin_1, 2 Pin_2, 3 Pin_3, 4 Pin_4, 5 Pin_5, 6 Pin_6, 7 Pin_7, 8 Pin_8, 9 Pin_9, 10 Pin_10, 11 Pin_11, 12 Pin_12, 13 Pin_13, 14 Pin_14, 15 Pin_15, 16 Pin_16, 17 Pin_17, 18 Pin_18, 19 Pin_19, 20 Pin_20, 21 Pin_21, 22 Pin_22, 23 Pin_23, 24 Pin_24, 25 Pin_25, 26 Pin_26, 27 Pin_27, 28 Pin_28, 29 Pin_29, 30 Pin_30, 31 Pin_31, 32 Pin_32, 33 Pin_33, 34 Pin_34, 35 Pin_35, 36 Pin_36, 37 Pin_37, 38 Pin_38, 39 Pin_39, 40 Pin_40, 41 Pin_41, 42 Pin_42, 43 Pin_43, 44 Pin_44, 45 Pin_45, 46 Pin_46, 47 Pin_47, 48 Pin_48, 49 Pin_49

## Conn_01x49_Socket
designator *  value Conn_01x49_Socket  Reference: J
"Generic connector, single row, 01x49, script generated"; ki_fp_filters: Connector*:*_1x??_*; Datasheet: ~; Description_: "Generic connector, single row, 01x49, script generated"; ki_keywords: connector
pins: 1 Pin_1, 2 Pin_2, 3 Pin_3, 4 Pin_4, 5 Pin_5, 6 Pin_6, 7 Pin_7, 8 Pin_8, 9 Pin_9, 10 Pin_10, 11 Pin_11, 12 Pin_12, 13 Pin_13, 14 Pin_14, 15 Pin_15, 16 Pin_16, 17 Pin_17, 18 Pin_18, 19 Pin_19, 20 Pin_20, 21 Pin_21, 22 Pin_22, 23 Pin_23, 24 Pin_24, 25 Pin_25, 26 Pin_26, 27 Pin_27, 28 Pin_28, 29 Pin_29, 30 Pin_30, 31 Pin_31, 32 Pin_32, 33 Pin_33, 34 Pin_34, 35 Pin_35, 36 Pin_36, 37 Pin_37, 38 Pin_38, 39 Pin_39, 40 Pin_40, 41 Pin_41, 42 Pin_42, 43 Pin_43, 44 Pin_44, 45 Pin_45, 46 Pin_46, 47 Pin_47, 48 Pin_48, 49 Pin_49

## Conn_01x50_Pin
designator *  value Conn_01x50_Pin  Reference: J
"Generic connector, single row, 01x50, script generated"; ki_fp_filters: Connector*:*_1x??_*; Datasheet: ~; Description_: "Generic connector, single row, 01x50, script generated"; ki_keywords: connector
pins: 1 Pin_1, 2 Pin_2, 3 Pin_3, 4 Pin_4, 5 Pin_5, 6 Pin_6, 7 Pin_7, 8 Pin_8, 9 Pin_9, 10 Pin_10, 11 Pin_11, 12 Pin_12, 13 Pin_13, 14 Pin_14, 15 Pin_15, 16 Pin_16, 17 Pin_17, 18 Pin_18, 19 Pin_19, 20 Pin_20, 21 Pin_21, 22 Pin_22, 23 Pin_23, 24 Pin_24, 25 Pin_25, 26 Pin_26, 27 Pin_27, 28 Pin_28, 29 Pin_29, 30 Pin_30, 31 Pin_31, 32 Pin_32, 33 Pin_33, 34 Pin_34, 35 Pin_35, 36 Pin_36, 37 Pin_37, 38 Pin_38, 39 Pin_39, 40 Pin_40, 41 Pin_41, 42 Pin_42, 43 Pin_43, 44 Pin_44, 45 Pin_45, 46 Pin_46, 47 Pin_47, 48 Pin_48, 49 Pin_49, 50 Pin_50

## Conn_01x50_Socket
designator *  value Conn_01x50_Socket  Reference: J
"Generic connector, single row, 01x50, script generated"; ki_fp_filters: Connector*:*_1x??_*; Datasheet: ~; Description_: "Generic connector, single row, 01x50, script generated"; ki_keywords: connector
pins: 1 Pin_1, 2 Pin_2, 3 Pin_3, 4 Pin_4, 5 Pin_5, 6 Pin_6, 7 Pin_7, 8 Pin_8, 9 Pin_9, 10 Pin_10, 11 Pin_11, 12 Pin_12, 13 Pin_13, 14 Pin_14, 15 Pin_15, 16 Pin_16, 17 Pin_17, 18 Pin_18, 19 Pin_19, 20 Pin_20, 21 Pin_21, 22 Pin_22, 23 Pin_23, 24 Pin_24, 25 Pin_25, 26 Pin_26, 27 Pin_27, 28 Pin_28, 29 Pin_29, 30 Pin_30, 31 Pin_31, 32 Pin_32, 33 Pin_33, 34 Pin_34, 35 Pin_35, 36 Pin_36, 37 Pin_37, 38 Pin_38, 39 Pin_39, 40 Pin_40, 41 Pin_41, 42 Pin_42, 43 Pin_43, 44 Pin_44, 45 Pin_45, 46 Pin_46, 47 Pin_47, 48 Pin_48, 49 Pin_49, 50 Pin_50

## Conn_01x51_Pin
designator *  value Conn_01x51_Pin  Reference: J
"Generic connector, single row, 01x51, script generated"; ki_fp_filters: Connector*:*_1x??_*; Datasheet: ~; Description_: "Generic connector, single row, 01x51, script generated"; ki_keywords: connector
pins: 1 Pin_1, 2 Pin_2, 3 Pin_3, 4 Pin_4, 5 Pin_5, 6 Pin_6, 7 Pin_7, 8 Pin_8, 9 Pin_9, 10 Pin_10, 11 Pin_11, 12 Pin_12, 13 Pin_13, 14 Pin_14, 15 Pin_15, 16 Pin_16, 17 Pin_17, 18 Pin_18, 19 Pin_19, 20 Pin_20, 21 Pin_21, 22 Pin_22, 23 Pin_23, 24 Pin_24, 25 Pin_25, 26 Pin_26, 27 Pin_27, 28 Pin_28, 29 Pin_29, 30 Pin_30, 31 Pin_31, 32 Pin_32, 33 Pin_33, 34 Pin_34, 35 Pin_35, 36 Pin_36, 37 Pin_37, 38 Pin_38, 39 Pin_39, 40 Pin_40, 41 Pin_41, 42 Pin_42, 43 Pin_43, 44 Pin_44, 45 Pin_45, 46 Pin_46, 47 Pin_47, 48 Pin_48, 49 Pin_49, 50 Pin_50, 51 Pin_51

## Conn_01x51_Socket
designator *  value Conn_01x51_Socket  Reference: J
"Generic connector, single row, 01x51, script generated"; ki_fp_filters: Connector*:*_1x??_*; Datasheet: ~; Description_: "Generic connector, single row, 01x51, script generated"; ki_keywords: connector
pins: 1 Pin_1, 2 Pin_2, 3 Pin_3, 4 Pin_4, 5 Pin_5, 6 Pin_6, 7 Pin_7, 8 Pin_8, 9 Pin_9, 10 Pin_10, 11 Pin_11, 12 Pin_12, 13 Pin_13, 14 Pin_14, 15 Pin_15, 16 Pin_16, 17 Pin_17, 18 Pin_18, 19 Pin_19, 20 Pin_20, 21 Pin_21, 22 Pin_22, 23 Pin_23, 24 Pin_24, 25 Pin_25, 26 Pin_26, 27 Pin_27, 28 Pin_28, 29 Pin_29, 30 Pin_30, 31 Pin_31, 32 Pin_32, 33 Pin_33, 34 Pin_34, 35 Pin_35, 36 Pin_36, 37 Pin_37, 38 Pin_38, 39 Pin_39, 40 Pin_40, 41 Pin_41, 42 Pin_42, 43 Pin_43, 44 Pin_44, 45 Pin_45, 46 Pin_46, 47 Pin_47, 48 Pin_48, 49 Pin_49, 50 Pin_50, 51 Pin_51

## Conn_01x52_Pin
designator *  value Conn_01x52_Pin  Reference: J
"Generic connector, single row, 01x52, script generated"; ki_fp_filters: Connector*:*_1x??_*; Datasheet: ~; Description_: "Generic connector, single row, 01x52, script generated"; ki_keywords: connector
pins: 1 Pin_1, 2 Pin_2, 3 Pin_3, 4 Pin_4, 5 Pin_5, 6 Pin_6, 7 Pin_7, 8 Pin_8, 9 Pin_9, 10 Pin_10, 11 Pin_11, 12 Pin_12, 13 Pin_13, 14 Pin_14, 15 Pin_15, 16 Pin_16, 17 Pin_17, 18 Pin_18, 19 Pin_19, 20 Pin_20, 21 Pin_21, 22 Pin_22, 23 Pin_23, 24 Pin_24, 25 Pin_25, 26 Pin_26, 27 Pin_27, 28 Pin_28, 29 Pin_29, 30 Pin_30, 31 Pin_31, 32 Pin_32, 33 Pin_33, 34 Pin_34, 35 Pin_35, 36 Pin_36, 37 Pin_37, 38 Pin_38, 39 Pin_39, 40 Pin_40, 41 Pin_41, 42 Pin_42, 43 Pin_43, 44 Pin_44, 45 Pin_45, 46 Pin_46, 47 Pin_47, 48 Pin_48, 49 Pin_49, 50 Pin_50, 51 Pin_51, 52 Pin_52

## Conn_01x52_Socket
designator *  value Conn_01x52_Socket  Reference: J
"Generic connector, single row, 01x52, script generated"; ki_fp_filters: Connector*:*_1x??_*; Datasheet: ~; Description_: "Generic connector, single row, 01x52, script generated"; ki_keywords: connector
pins: 1 Pin_1, 2 Pin_2, 3 Pin_3, 4 Pin_4, 5 Pin_5, 6 Pin_6, 7 Pin_7, 8 Pin_8, 9 Pin_9, 10 Pin_10, 11 Pin_11, 12 Pin_12, 13 Pin_13, 14 Pin_14, 15 Pin_15, 16 Pin_16, 17 Pin_17, 18 Pin_18, 19 Pin_19, 20 Pin_20, 21 Pin_21, 22 Pin_22, 23 Pin_23, 24 Pin_24, 25 Pin_25, 26 Pin_26, 27 Pin_27, 28 Pin_28, 29 Pin_29, 30 Pin_30, 31 Pin_31, 32 Pin_32, 33 Pin_33, 34 Pin_34, 35 Pin_35, 36 Pin_36, 37 Pin_37, 38 Pin_38, 39 Pin_39, 40 Pin_40, 41 Pin_41, 42 Pin_42, 43 Pin_43, 44 Pin_44, 45 Pin_45, 46 Pin_46, 47 Pin_47, 48 Pin_48, 49 Pin_49, 50 Pin_50, 51 Pin_51, 52 Pin_52

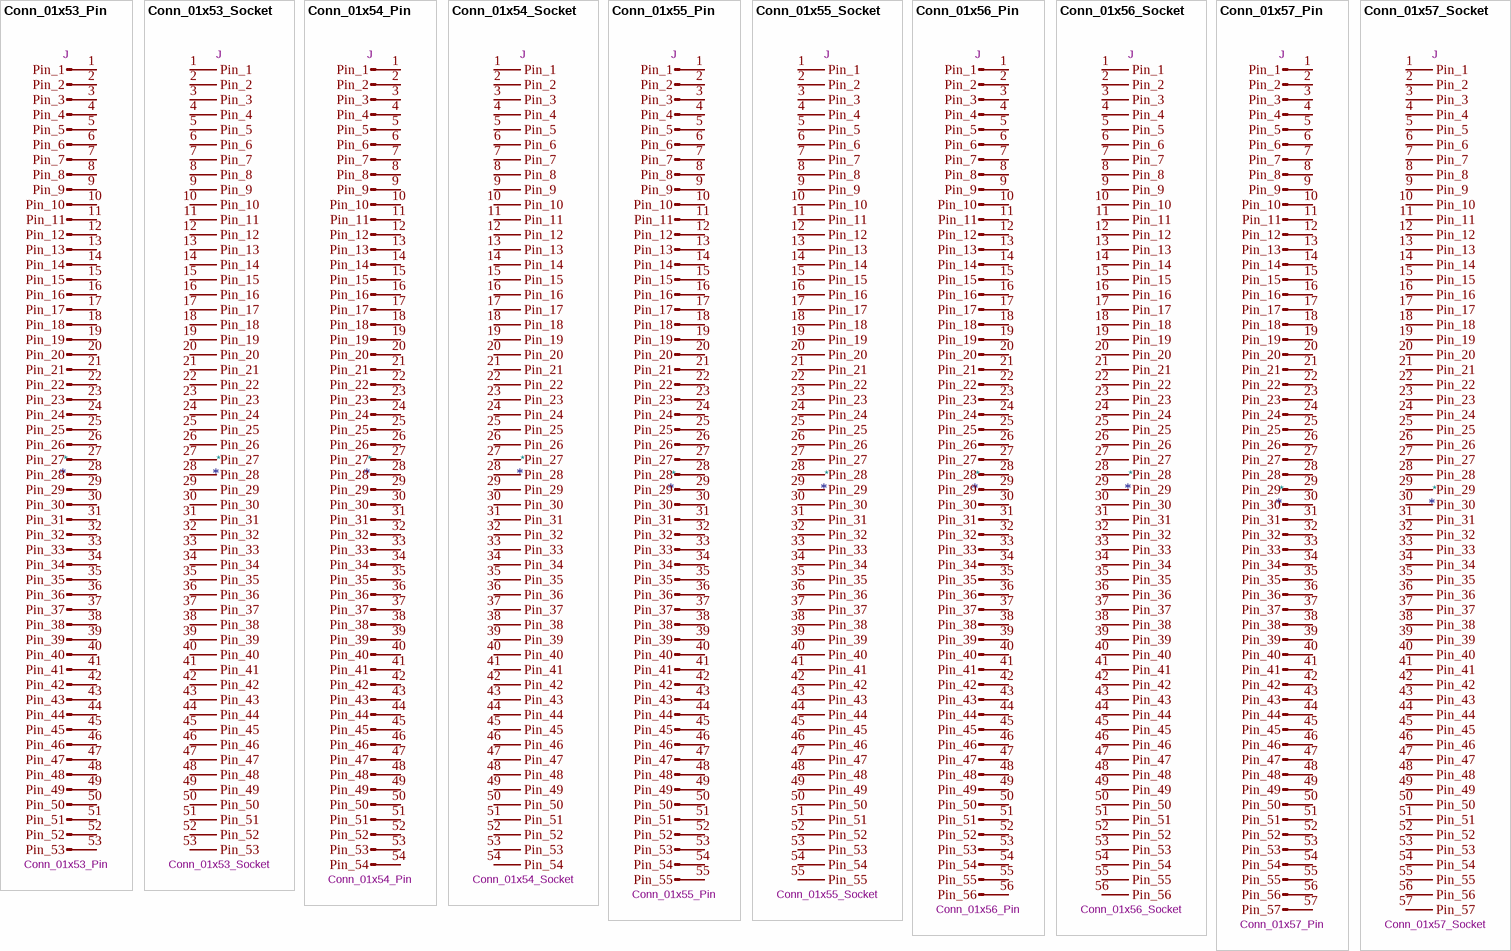
[diagram p7: symbols Conn_01x53_Pin to Conn_01x57_Socket]

## Conn_01x53_Pin
designator *  value Conn_01x53_Pin  Reference: J
"Generic connector, single row, 01x53, script generated"; ki_fp_filters: Connector*:*_1x??_*; Datasheet: ~; Description_: "Generic connector, single row, 01x53, script generated"; ki_keywords: connector
pins: 1 Pin_1, 2 Pin_2, 3 Pin_3, 4 Pin_4, 5 Pin_5, 6 Pin_6, 7 Pin_7, 8 Pin_8, 9 Pin_9, 10 Pin_10, 11 Pin_11, 12 Pin_12, 13 Pin_13, 14 Pin_14, 15 Pin_15, 16 Pin_16, 17 Pin_17, 18 Pin_18, 19 Pin_19, 20 Pin_20, 21 Pin_21, 22 Pin_22, 23 Pin_23, 24 Pin_24, 25 Pin_25, 26 Pin_26, 27 Pin_27, 28 Pin_28, 29 Pin_29, 30 Pin_30, 31 Pin_31, 32 Pin_32, 33 Pin_33, 34 Pin_34, 35 Pin_35, 36 Pin_36, 37 Pin_37, 38 Pin_38, 39 Pin_39, 40 Pin_40, 41 Pin_41, 42 Pin_42, 43 Pin_43, 44 Pin_44, 45 Pin_45, 46 Pin_46, 47 Pin_47, 48 Pin_48, 49 Pin_49, 50 Pin_50, 51 Pin_51, 52 Pin_52, 53 Pin_53

## Conn_01x53_Socket
designator *  value Conn_01x53_Socket  Reference: J
"Generic connector, single row, 01x53, script generated"; ki_fp_filters: Connector*:*_1x??_*; Datasheet: ~; Description_: "Generic connector, single row, 01x53, script generated"; ki_keywords: connector
pins: 1 Pin_1, 2 Pin_2, 3 Pin_3, 4 Pin_4, 5 Pin_5, 6 Pin_6, 7 Pin_7, 8 Pin_8, 9 Pin_9, 10 Pin_10, 11 Pin_11, 12 Pin_12, 13 Pin_13, 14 Pin_14, 15 Pin_15, 16 Pin_16, 17 Pin_17, 18 Pin_18, 19 Pin_19, 20 Pin_20, 21 Pin_21, 22 Pin_22, 23 Pin_23, 24 Pin_24, 25 Pin_25, 26 Pin_26, 27 Pin_27, 28 Pin_28, 29 Pin_29, 30 Pin_30, 31 Pin_31, 32 Pin_32, 33 Pin_33, 34 Pin_34, 35 Pin_35, 36 Pin_36, 37 Pin_37, 38 Pin_38, 39 Pin_39, 40 Pin_40, 41 Pin_41, 42 Pin_42, 43 Pin_43, 44 Pin_44, 45 Pin_45, 46 Pin_46, 47 Pin_47, 48 Pin_48, 49 Pin_49, 50 Pin_50, 51 Pin_51, 52 Pin_52, 53 Pin_53

## Conn_01x54_Pin
designator *  value Conn_01x54_Pin  Reference: J
"Generic connector, single row, 01x54, script generated"; ki_fp_filters: Connector*:*_1x??_*; Datasheet: ~; Description_: "Generic connector, single row, 01x54, script generated"; ki_keywords: connector
pins: 1 Pin_1, 2 Pin_2, 3 Pin_3, 4 Pin_4, 5 Pin_5, 6 Pin_6, 7 Pin_7, 8 Pin_8, 9 Pin_9, 10 Pin_10, 11 Pin_11, 12 Pin_12, 13 Pin_13, 14 Pin_14, 15 Pin_15, 16 Pin_16, 17 Pin_17, 18 Pin_18, 19 Pin_19, 20 Pin_20, 21 Pin_21, 22 Pin_22, 23 Pin_23, 24 Pin_24, 25 Pin_25, 26 Pin_26, 27 Pin_27, 28 Pin_28, 29 Pin_29, 30 Pin_30, 31 Pin_31, 32 Pin_32, 33 Pin_33, 34 Pin_34, 35 Pin_35, 36 Pin_36, 37 Pin_37, 38 Pin_38, 39 Pin_39, 40 Pin_40, 41 Pin_41, 42 Pin_42, 43 Pin_43, 44 Pin_44, 45 Pin_45, 46 Pin_46, 47 Pin_47, 48 Pin_48, 49 Pin_49, 50 Pin_50, 51 Pin_51, 52 Pin_52, 53 Pin_53, 54 Pin_54

## Conn_01x54_Socket
designator *  value Conn_01x54_Socket  Reference: J
"Generic connector, single row, 01x54, script generated"; ki_fp_filters: Connector*:*_1x??_*; Datasheet: ~; Description_: "Generic connector, single row, 01x54, script generated"; ki_keywords: connector
pins: 1 Pin_1, 2 Pin_2, 3 Pin_3, 4 Pin_4, 5 Pin_5, 6 Pin_6, 7 Pin_7, 8 Pin_8, 9 Pin_9, 10 Pin_10, 11 Pin_11, 12 Pin_12, 13 Pin_13, 14 Pin_14, 15 Pin_15, 16 Pin_16, 17 Pin_17, 18 Pin_18, 19 Pin_19, 20 Pin_20, 21 Pin_21, 22 Pin_22, 23 Pin_23, 24 Pin_24, 25 Pin_25, 26 Pin_26, 27 Pin_27, 28 Pin_28, 29 Pin_29, 30 Pin_30, 31 Pin_31, 32 Pin_32, 33 Pin_33, 34 Pin_34, 35 Pin_35, 36 Pin_36, 37 Pin_37, 38 Pin_38, 39 Pin_39, 40 Pin_40, 41 Pin_41, 42 Pin_42, 43 Pin_43, 44 Pin_44, 45 Pin_45, 46 Pin_46, 47 Pin_47, 48 Pin_48, 49 Pin_49, 50 Pin_50, 51 Pin_51, 52 Pin_52, 53 Pin_53, 54 Pin_54

## Conn_01x55_Pin
designator *  value Conn_01x55_Pin  Reference: J
"Generic connector, single row, 01x55, script generated"; ki_fp_filters: Connector*:*_1x??_*; Datasheet: ~; Description_: "Generic connector, single row, 01x55, script generated"; ki_keywords: connector
pins: 1 Pin_1, 2 Pin_2, 3 Pin_3, 4 Pin_4, 5 Pin_5, 6 Pin_6, 7 Pin_7, 8 Pin_8, 9 Pin_9, 10 Pin_10, 11 Pin_11, 12 Pin_12, 13 Pin_13, 14 Pin_14, 15 Pin_15, 16 Pin_16, 17 Pin_17, 18 Pin_18, 19 Pin_19, 20 Pin_20, 21 Pin_21, 22 Pin_22, 23 Pin_23, 24 Pin_24, 25 Pin_25, 26 Pin_26, 27 Pin_27, 28 Pin_28, 29 Pin_29, 30 Pin_30, 31 Pin_31, 32 Pin_32, 33 Pin_33, 34 Pin_34, 35 Pin_35, 36 Pin_36, 37 Pin_37, 38 Pin_38, 39 Pin_39, 40 Pin_40, 41 Pin_41, 42 Pin_42, 43 Pin_43, 44 Pin_44, 45 Pin_45, 46 Pin_46, 47 Pin_47, 48 Pin_48, 49 Pin_49, 50 Pin_50, 51 Pin_51, 52 Pin_52, 53 Pin_53, 54 Pin_54, 55 Pin_55

## Conn_01x55_Socket
designator *  value Conn_01x55_Socket  Reference: J
"Generic connector, single row, 01x55, script generated"; ki_fp_filters: Connector*:*_1x??_*; Datasheet: ~; Description_: "Generic connector, single row, 01x55, script generated"; ki_keywords: connector
pins: 1 Pin_1, 2 Pin_2, 3 Pin_3, 4 Pin_4, 5 Pin_5, 6 Pin_6, 7 Pin_7, 8 Pin_8, 9 Pin_9, 10 Pin_10, 11 Pin_11, 12 Pin_12, 13 Pin_13, 14 Pin_14, 15 Pin_15, 16 Pin_16, 17 Pin_17, 18 Pin_18, 19 Pin_19, 20 Pin_20, 21 Pin_21, 22 Pin_22, 23 Pin_23, 24 Pin_24, 25 Pin_25, 26 Pin_26, 27 Pin_27, 28 Pin_28, 29 Pin_29, 30 Pin_30, 31 Pin_31, 32 Pin_32, 33 Pin_33, 34 Pin_34, 35 Pin_35, 36 Pin_36, 37 Pin_37, 38 Pin_38, 39 Pin_39, 40 Pin_40, 41 Pin_41, 42 Pin_42, 43 Pin_43, 44 Pin_44, 45 Pin_45, 46 Pin_46, 47 Pin_47, 48 Pin_48, 49 Pin_49, 50 Pin_50, 51 Pin_51, 52 Pin_52, 53 Pin_53, 54 Pin_54, 55 Pin_55

## Conn_01x56_Pin
designator *  value Conn_01x56_Pin  Reference: J
"Generic connector, single row, 01x56, script generated"; ki_fp_filters: Connector*:*_1x??_*; Datasheet: ~; Description_: "Generic connector, single row, 01x56, script generated"; ki_keywords: connector
pins: 1 Pin_1, 2 Pin_2, 3 Pin_3, 4 Pin_4, 5 Pin_5, 6 Pin_6, 7 Pin_7, 8 Pin_8, 9 Pin_9, 10 Pin_10, 11 Pin_11, 12 Pin_12, 13 Pin_13, 14 Pin_14, 15 Pin_15, 16 Pin_16, 17 Pin_17, 18 Pin_18, 19 Pin_19, 20 Pin_20, 21 Pin_21, 22 Pin_22, 23 Pin_23, 24 Pin_24, 25 Pin_25, 26 Pin_26, 27 Pin_27, 28 Pin_28, 29 Pin_29, 30 Pin_30, 31 Pin_31, 32 Pin_32, 33 Pin_33, 34 Pin_34, 35 Pin_35, 36 Pin_36, 37 Pin_37, 38 Pin_38, 39 Pin_39, 40 Pin_40, 41 Pin_41, 42 Pin_42, 43 Pin_43, 44 Pin_44, 45 Pin_45, 46 Pin_46, 47 Pin_47, 48 Pin_48, 49 Pin_49, 50 Pin_50, 51 Pin_51, 52 Pin_52, 53 Pin_53, 54 Pin_54, 55 Pin_55, 56 Pin_56

## Conn_01x56_Socket
designator *  value Conn_01x56_Socket  Reference: J
"Generic connector, single row, 01x56, script generated"; ki_fp_filters: Connector*:*_1x??_*; Datasheet: ~; Description_: "Generic connector, single row, 01x56, script generated"; ki_keywords: connector
pins: 1 Pin_1, 2 Pin_2, 3 Pin_3, 4 Pin_4, 5 Pin_5, 6 Pin_6, 7 Pin_7, 8 Pin_8, 9 Pin_9, 10 Pin_10, 11 Pin_11, 12 Pin_12, 13 Pin_13, 14 Pin_14, 15 Pin_15, 16 Pin_16, 17 Pin_17, 18 Pin_18, 19 Pin_19, 20 Pin_20, 21 Pin_21, 22 Pin_22, 23 Pin_23, 24 Pin_24, 25 Pin_25, 26 Pin_26, 27 Pin_27, 28 Pin_28, 29 Pin_29, 30 Pin_30, 31 Pin_31, 32 Pin_32, 33 Pin_33, 34 Pin_34, 35 Pin_35, 36 Pin_36, 37 Pin_37, 38 Pin_38, 39 Pin_39, 40 Pin_40, 41 Pin_41, 42 Pin_42, 43 Pin_43, 44 Pin_44, 45 Pin_45, 46 Pin_46, 47 Pin_47, 48 Pin_48, 49 Pin_49, 50 Pin_50, 51 Pin_51, 52 Pin_52, 53 Pin_53, 54 Pin_54, 55 Pin_55, 56 Pin_56

## Conn_01x57_Pin
designator *  value Conn_01x57_Pin  Reference: J
"Generic connector, single row, 01x57, script generated"; ki_fp_filters: Connector*:*_1x??_*; Datasheet: ~; Description_: "Generic connector, single row, 01x57, script generated"; ki_keywords: connector
pins: 1 Pin_1, 2 Pin_2, 3 Pin_3, 4 Pin_4, 5 Pin_5, 6 Pin_6, 7 Pin_7, 8 Pin_8, 9 Pin_9, 10 Pin_10, 11 Pin_11, 12 Pin_12, 13 Pin_13, 14 Pin_14, 15 Pin_15, 16 Pin_16, 17 Pin_17, 18 Pin_18, 19 Pin_19, 20 Pin_20, 21 Pin_21, 22 Pin_22, 23 Pin_23, 24 Pin_24, 25 Pin_25, 26 Pin_26, 27 Pin_27, 28 Pin_28, 29 Pin_29, 30 Pin_30, 31 Pin_31, 32 Pin_32, 33 Pin_33, 34 Pin_34, 35 Pin_35, 36 Pin_36, 37 Pin_37, 38 Pin_38, 39 Pin_39, 40 Pin_40, 41 Pin_41, 42 Pin_42, 43 Pin_43, 44 Pin_44, 45 Pin_45, 46 Pin_46, 47 Pin_47, 48 Pin_48, 49 Pin_49, 50 Pin_50, 51 Pin_51, 52 Pin_52, 53 Pin_53, 54 Pin_54, 55 Pin_55, 56 Pin_56, 57 Pin_57

## Conn_01x57_Socket
designator *  value Conn_01x57_Socket  Reference: J
"Generic connector, single row, 01x57, script generated"; ki_fp_filters: Connector*:*_1x??_*; Datasheet: ~; Description_: "Generic connector, single row, 01x57, script generated"; ki_keywords: connector
pins: 1 Pin_1, 2 Pin_2, 3 Pin_3, 4 Pin_4, 5 Pin_5, 6 Pin_6, 7 Pin_7, 8 Pin_8, 9 Pin_9, 10 Pin_10, 11 Pin_11, 12 Pin_12, 13 Pin_13, 14 Pin_14, 15 Pin_15, 16 Pin_16, 17 Pin_17, 18 Pin_18, 19 Pin_19, 20 Pin_20, 21 Pin_21, 22 Pin_22, 23 Pin_23, 24 Pin_24, 25 Pin_25, 26 Pin_26, 27 Pin_27, 28 Pin_28, 29 Pin_29, 30 Pin_30, 31 Pin_31, 32 Pin_32, 33 Pin_33, 34 Pin_34, 35 Pin_35, 36 Pin_36, 37 Pin_37, 38 Pin_38, 39 Pin_39, 40 Pin_40, 41 Pin_41, 42 Pin_42, 43 Pin_43, 44 Pin_44, 45 Pin_45, 46 Pin_46, 47 Pin_47, 48 Pin_48, 49 Pin_49, 50 Pin_50, 51 Pin_51, 52 Pin_52, 53 Pin_53, 54 Pin_54, 55 Pin_55, 56 Pin_56, 57 Pin_57

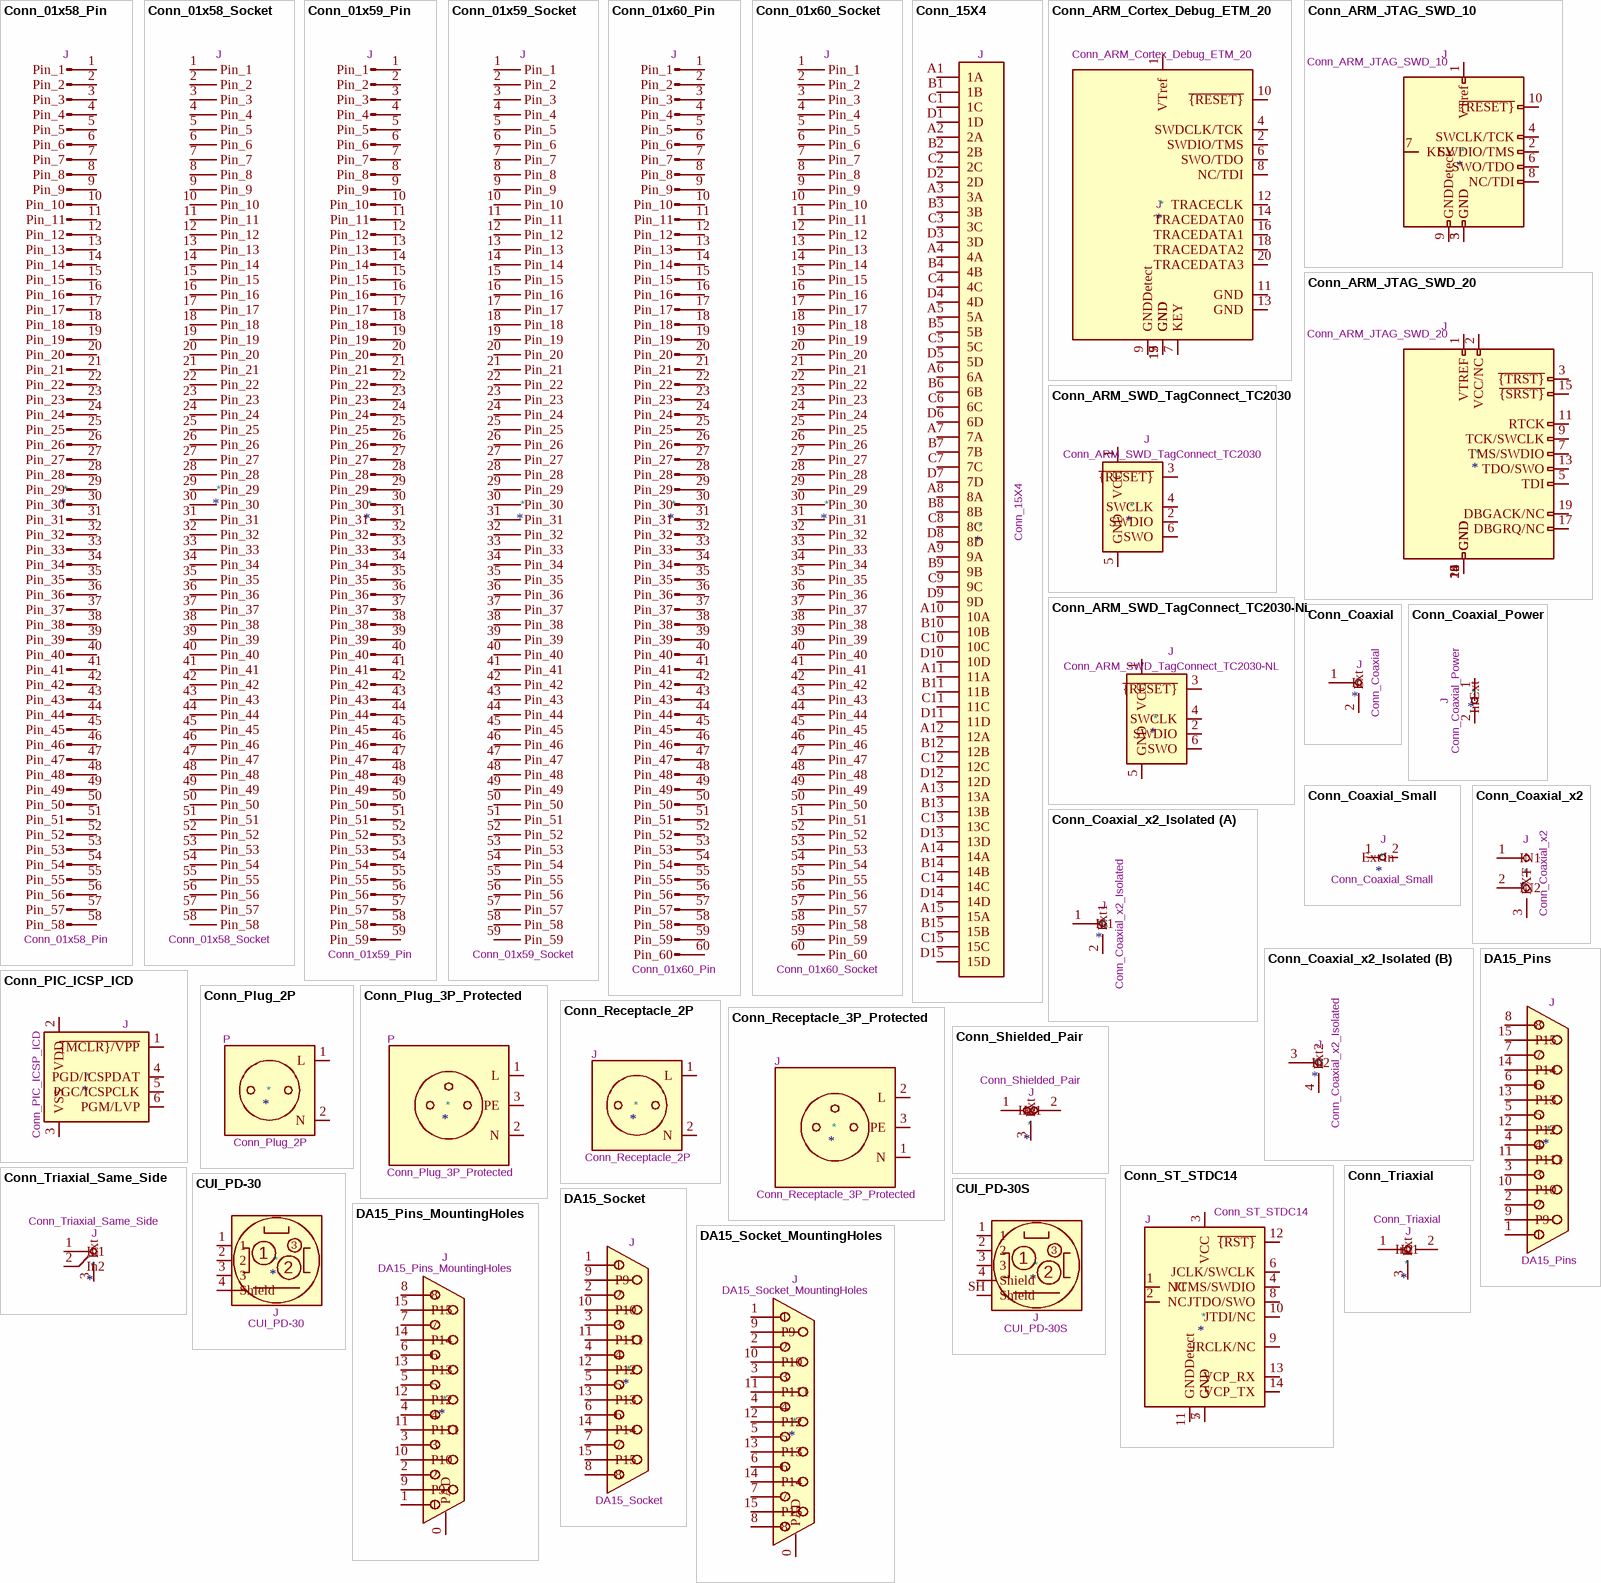
[diagram p8: symbols Conn_01x58_Pin to DA15_Socket_MountingHoles]

## Conn_01x58_Pin
designator *  value Conn_01x58_Pin  Reference: J
"Generic connector, single row, 01x58, script generated"; ki_fp_filters: Connector*:*_1x??_*; Datasheet: ~; Description_: "Generic connector, single row, 01x58, script generated"; ki_keywords: connector
pins: 1 Pin_1, 2 Pin_2, 3 Pin_3, 4 Pin_4, 5 Pin_5, 6 Pin_6, 7 Pin_7, 8 Pin_8, 9 Pin_9, 10 Pin_10, 11 Pin_11, 12 Pin_12, 13 Pin_13, 14 Pin_14, 15 Pin_15, 16 Pin_16, 17 Pin_17, 18 Pin_18, 19 Pin_19, 20 Pin_20, 21 Pin_21, 22 Pin_22, 23 Pin_23, 24 Pin_24, 25 Pin_25, 26 Pin_26, 27 Pin_27, 28 Pin_28, 29 Pin_29, 30 Pin_30, 31 Pin_31, 32 Pin_32, 33 Pin_33, 34 Pin_34, 35 Pin_35, 36 Pin_36, 37 Pin_37, 38 Pin_38, 39 Pin_39, 40 Pin_40, 41 Pin_41, 42 Pin_42, 43 Pin_43, 44 Pin_44, 45 Pin_45, 46 Pin_46, 47 Pin_47, 48 Pin_48, 49 Pin_49, 50 Pin_50, 51 Pin_51, 52 Pin_52, 53 Pin_53, 54 Pin_54, 55 Pin_55, 56 Pin_56, 57 Pin_57, 58 Pin_58

## Conn_01x58_Socket
designator *  value Conn_01x58_Socket  Reference: J
"Generic connector, single row, 01x58, script generated"; ki_fp_filters: Connector*:*_1x??_*; Datasheet: ~; Description_: "Generic connector, single row, 01x58, script generated"; ki_keywords: connector
pins: 1 Pin_1, 2 Pin_2, 3 Pin_3, 4 Pin_4, 5 Pin_5, 6 Pin_6, 7 Pin_7, 8 Pin_8, 9 Pin_9, 10 Pin_10, 11 Pin_11, 12 Pin_12, 13 Pin_13, 14 Pin_14, 15 Pin_15, 16 Pin_16, 17 Pin_17, 18 Pin_18, 19 Pin_19, 20 Pin_20, 21 Pin_21, 22 Pin_22, 23 Pin_23, 24 Pin_24, 25 Pin_25, 26 Pin_26, 27 Pin_27, 28 Pin_28, 29 Pin_29, 30 Pin_30, 31 Pin_31, 32 Pin_32, 33 Pin_33, 34 Pin_34, 35 Pin_35, 36 Pin_36, 37 Pin_37, 38 Pin_38, 39 Pin_39, 40 Pin_40, 41 Pin_41, 42 Pin_42, 43 Pin_43, 44 Pin_44, 45 Pin_45, 46 Pin_46, 47 Pin_47, 48 Pin_48, 49 Pin_49, 50 Pin_50, 51 Pin_51, 52 Pin_52, 53 Pin_53, 54 Pin_54, 55 Pin_55, 56 Pin_56, 57 Pin_57, 58 Pin_58

## Conn_01x59_Pin
designator *  value Conn_01x59_Pin  Reference: J
"Generic connector, single row, 01x59, script generated"; ki_fp_filters: Connector*:*_1x??_*; Datasheet: ~; Description_: "Generic connector, single row, 01x59, script generated"; ki_keywords: connector
pins: 1 Pin_1, 2 Pin_2, 3 Pin_3, 4 Pin_4, 5 Pin_5, 6 Pin_6, 7 Pin_7, 8 Pin_8, 9 Pin_9, 10 Pin_10, 11 Pin_11, 12 Pin_12, 13 Pin_13, 14 Pin_14, 15 Pin_15, 16 Pin_16, 17 Pin_17, 18 Pin_18, 19 Pin_19, 20 Pin_20, 21 Pin_21, 22 Pin_22, 23 Pin_23, 24 Pin_24, 25 Pin_25, 26 Pin_26, 27 Pin_27, 28 Pin_28, 29 Pin_29, 30 Pin_30, 31 Pin_31, 32 Pin_32, 33 Pin_33, 34 Pin_34, 35 Pin_35, 36 Pin_36, 37 Pin_37, 38 Pin_38, 39 Pin_39, 40 Pin_40, 41 Pin_41, 42 Pin_42, 43 Pin_43, 44 Pin_44, 45 Pin_45, 46 Pin_46, 47 Pin_47, 48 Pin_48, 49 Pin_49, 50 Pin_50, 51 Pin_51, 52 Pin_52, 53 Pin_53, 54 Pin_54, 55 Pin_55, 56 Pin_56, 57 Pin_57, 58 Pin_58, 59 Pin_59

## Conn_01x59_Socket
designator *  value Conn_01x59_Socket  Reference: J
"Generic connector, single row, 01x59, script generated"; ki_fp_filters: Connector*:*_1x??_*; Datasheet: ~; Description_: "Generic connector, single row, 01x59, script generated"; ki_keywords: connector
pins: 1 Pin_1, 2 Pin_2, 3 Pin_3, 4 Pin_4, 5 Pin_5, 6 Pin_6, 7 Pin_7, 8 Pin_8, 9 Pin_9, 10 Pin_10, 11 Pin_11, 12 Pin_12, 13 Pin_13, 14 Pin_14, 15 Pin_15, 16 Pin_16, 17 Pin_17, 18 Pin_18, 19 Pin_19, 20 Pin_20, 21 Pin_21, 22 Pin_22, 23 Pin_23, 24 Pin_24, 25 Pin_25, 26 Pin_26, 27 Pin_27, 28 Pin_28, 29 Pin_29, 30 Pin_30, 31 Pin_31, 32 Pin_32, 33 Pin_33, 34 Pin_34, 35 Pin_35, 36 Pin_36, 37 Pin_37, 38 Pin_38, 39 Pin_39, 40 Pin_40, 41 Pin_41, 42 Pin_42, 43 Pin_43, 44 Pin_44, 45 Pin_45, 46 Pin_46, 47 Pin_47, 48 Pin_48, 49 Pin_49, 50 Pin_50, 51 Pin_51, 52 Pin_52, 53 Pin_53, 54 Pin_54, 55 Pin_55, 56 Pin_56, 57 Pin_57, 58 Pin_58, 59 Pin_59

## Conn_01x60_Pin
designator *  value Conn_01x60_Pin  Reference: J
"Generic connector, single row, 01x60, script generated"; ki_fp_filters: Connector*:*_1x??_*; Datasheet: ~; Description_: "Generic connector, single row, 01x60, script generated"; ki_keywords: connector
pins: 1 Pin_1, 2 Pin_2, 3 Pin_3, 4 Pin_4, 5 Pin_5, 6 Pin_6, 7 Pin_7, 8 Pin_8, 9 Pin_9, 10 Pin_10, 11 Pin_11, 12 Pin_12, 13 Pin_13, 14 Pin_14, 15 Pin_15, 16 Pin_16, 17 Pin_17, 18 Pin_18, 19 Pin_19, 20 Pin_20, 21 Pin_21, 22 Pin_22, 23 Pin_23, 24 Pin_24, 25 Pin_25, 26 Pin_26, 27 Pin_27, 28 Pin_28, 29 Pin_29, 30 Pin_30, 31 Pin_31, 32 Pin_32, 33 Pin_33, 34 Pin_34, 35 Pin_35, 36 Pin_36, 37 Pin_37, 38 Pin_38, 39 Pin_39, 40 Pin_40, 41 Pin_41, 42 Pin_42, 43 Pin_43, 44 Pin_44, 45 Pin_45, 46 Pin_46, 47 Pin_47, 48 Pin_48, 49 Pin_49, 50 Pin_50, 51 Pin_51, 52 Pin_52, 53 Pin_53, 54 Pin_54, 55 Pin_55, 56 Pin_56, 57 Pin_57, 58 Pin_58, 59 Pin_59, 60 Pin_60

## Conn_01x60_Socket
designator *  value Conn_01x60_Socket  Reference: J
"Generic connector, single row, 01x60, script generated"; ki_fp_filters: Connector*:*_1x??_*; Datasheet: ~; Description_: "Generic connector, single row, 01x60, script generated"; ki_keywords: connector
pins: 1 Pin_1, 2 Pin_2, 3 Pin_3, 4 Pin_4, 5 Pin_5, 6 Pin_6, 7 Pin_7, 8 Pin_8, 9 Pin_9, 10 Pin_10, 11 Pin_11, 12 Pin_12, 13 Pin_13, 14 Pin_14, 15 Pin_15, 16 Pin_16, 17 Pin_17, 18 Pin_18, 19 Pin_19, 20 Pin_20, 21 Pin_21, 22 Pin_22, 23 Pin_23, 24 Pin_24, 25 Pin_25, 26 Pin_26, 27 Pin_27, 28 Pin_28, 29 Pin_29, 30 Pin_30, 31 Pin_31, 32 Pin_32, 33 Pin_33, 34 Pin_34, 35 Pin_35, 36 Pin_36, 37 Pin_37, 38 Pin_38, 39 Pin_39, 40 Pin_40, 41 Pin_41, 42 Pin_42, 43 Pin_43, 44 Pin_44, 45 Pin_45, 46 Pin_46, 47 Pin_47, 48 Pin_48, 49 Pin_49, 50 Pin_50, 51 Pin_51, 52 Pin_52, 53 Pin_53, 54 Pin_54, 55 Pin_55, 56 Pin_56, 57 Pin_57, 58 Pin_58, 59 Pin_59, 60 Pin_60

## Conn_15X4
designator *  value Conn_15X4  Reference: J
Connector Europe, 60 contacts, ranges A,B,C,D; Datasheet: ~; Description_: Connector Europe, 60 contacts, ranges A,B,C,D; ki_keywords: connector
pins: A1 1A, A2 2A, A3 3A, A4 4A, A5 5A, A6 6A, A7 7A, A8 8A, A9 9A, A10 10A, A11 11A, A12 12A, A13 13A, A14 14A, A15 15A, B1 1B, B2 2B, B3 3B, B4 4B, B5 5B, B6 6B, B7 7B, B8 8B, B9 9B, B10 10B, B11 11B, B12 12B, B13 13B, B14 14B, B15 15B, C1 1C, C2 2C, C3 3C, C4 4C, C5 5C, C6 6C, C7 7C, C8 8C, C9 9C, C10 10C, C11 11C, C12 12C, C13 13C, C14 14C, C15 15C, D1 1D, D2 2D, D3 3D, D4 4D, D5 5D, D6 6D, D7 7D, D8 8D, D9 9D, D10 10D, D11 11D, D12 12D, D13 13D, D14 14D, D15 15D

## Conn_ARM_Cortex_Debug_ETM_20
designator *  value Conn_ARM_Cortex_Debug_ETM_20  Reference: J
Arm Cortex Debug+ETM Connector; ki_keywords: Trace; ki_fp_filters: PinHeader?2x10?P1.27mm*; Datasheet: http://infocenter.arm.com/help/topic/com.arm.doc.ddi0314h/DDI0314H_coresight_components_trm.pdf; Description_: Arm Cortex Debug+ETM Connector
pins: 1 VTref, 2 SWDIO/TMS, 3 GND, 4 SWDCLK/TCK, 5 GND, 6 SWO/TDO, 7 KEY, 8 NC/TDI, 9 GNDDetect, 10 ~{{RESET}}, 11 GND, 12 TRACECLK, 13 GND, 14 TRACEDATA0, 15 GND, 16 TRACEDATA1, 17 GND, 18 TRACEDATA2, 19 GND, 20 TRACEDATA3